# Altium integrated library SHMELib.IntLib: 385 symbols (part 1 of 3)
Pins are listed as number, name and electrical type; pins without a type are passive.

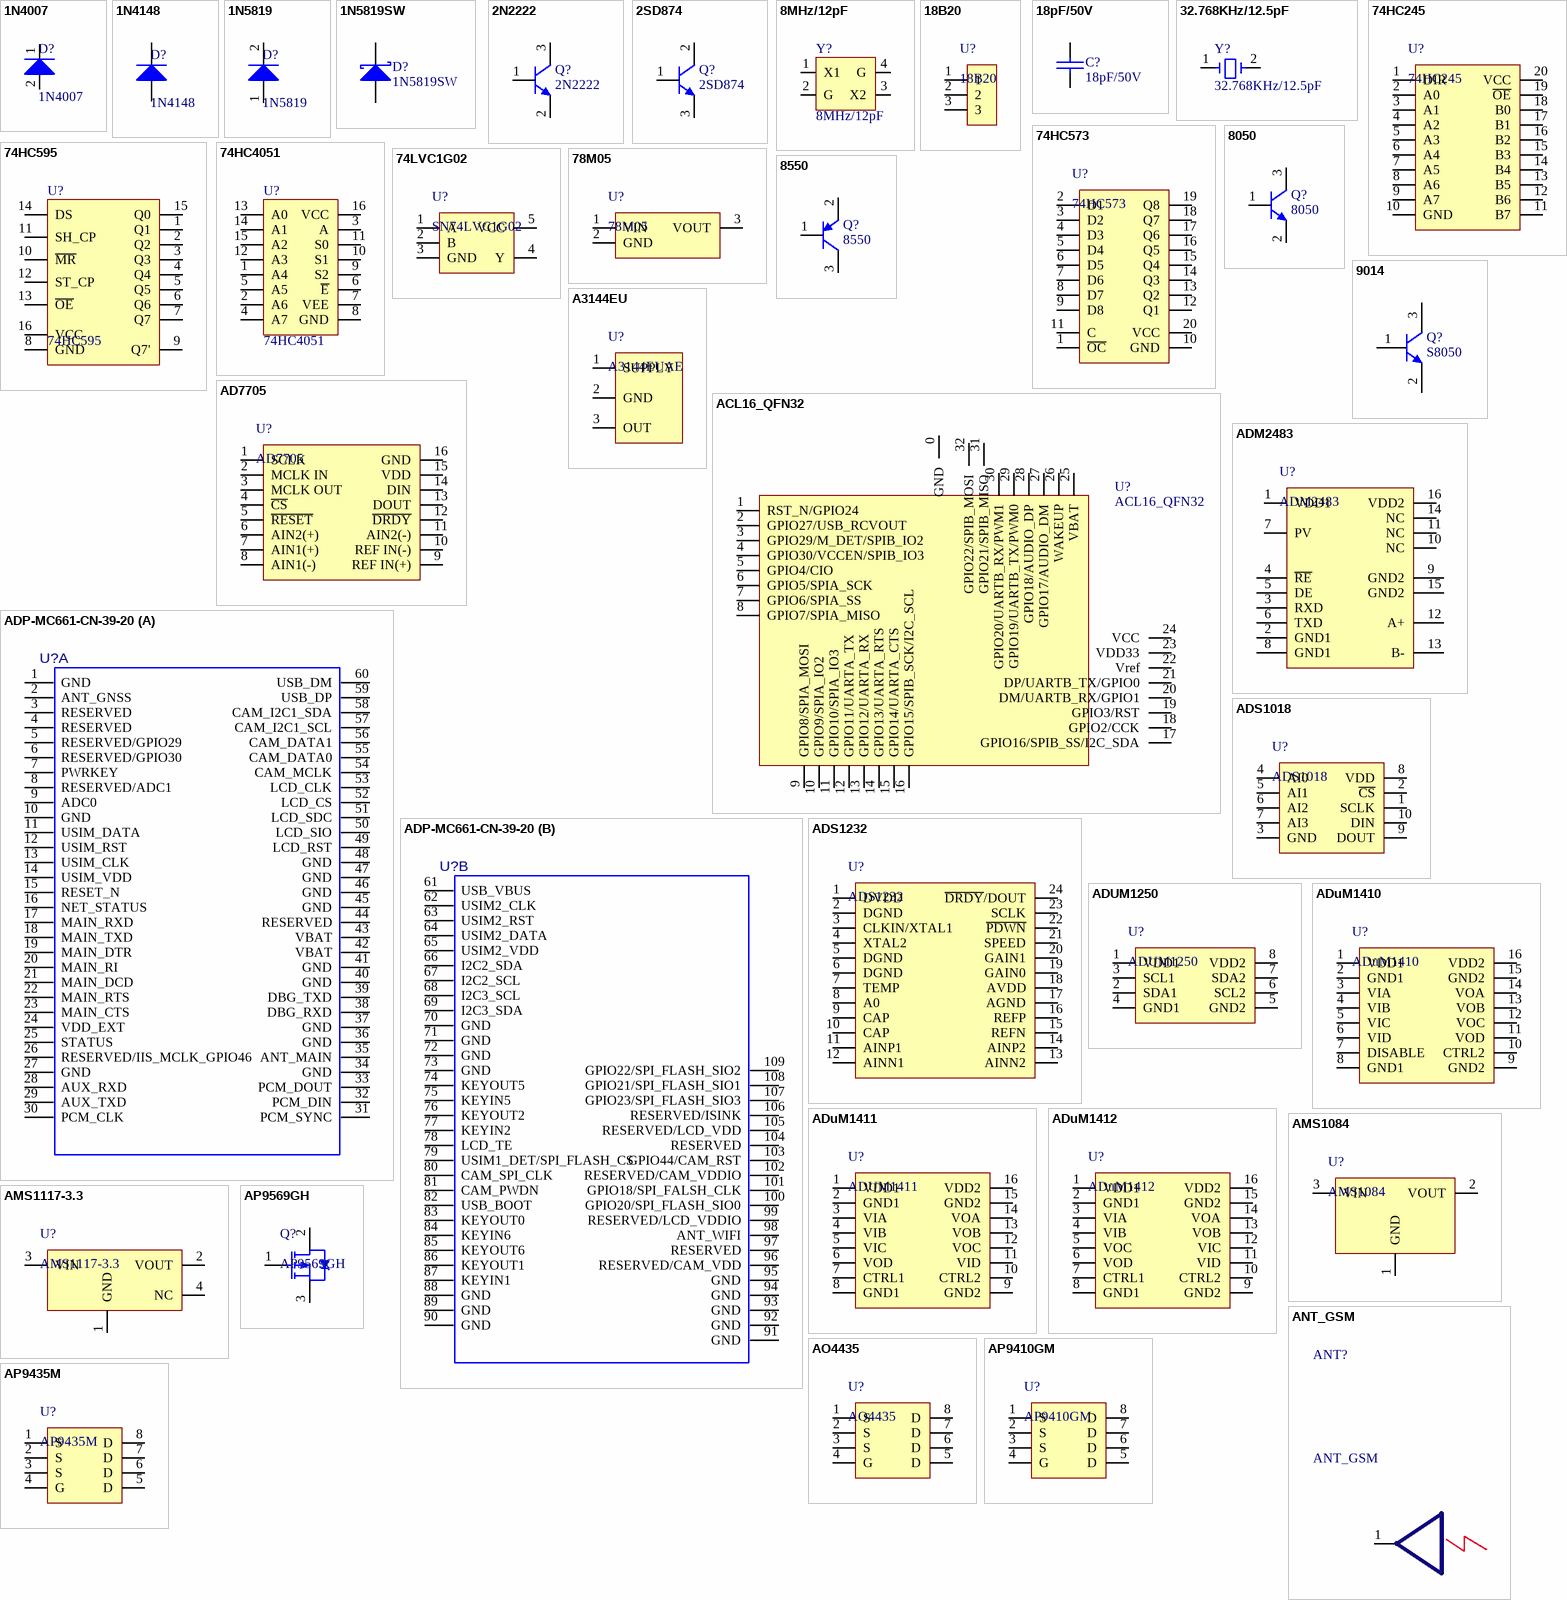
[diagram p0: symbols 1N4007 to AP9569GH]

## 1N4007
designator D?
High Conductance Fast Diode
footprint 1206D
footprint Sma
pins: 1 A, 2 K

## 1N4148
designator D?
High Conductance Fast Diode
footprint 1206D
footprint SOD-323
pins: 1 A, 2 K

## 1N5819
designator D?
High Conductance Fast Diode
footprint Sma
footprint SOD-123
pins: 1 A, 2 K

## 1N5819SW
designator D?
Schottky Diode
footprint SOD-323 (Footprint not found)
footprint SOD-323
pins: 1 A, 2 K

## 2N2222
designator Q?
NPN General Purpose Amplifier
footprint SOT23-3
pins: 1 E, 2 B, 3 C

## 2SD874
designator Q?
NPN General Purpose Amplifier
footprint SOT23-3
footprint TO-92 (TO, Flat Index; 3 In-Line, Axial Leads; Body Dia. 4.8mm; Leads 0.55 x 0.51 mm (max))
footprint SOT-89-3L
pins: 1 E, 2 B, 3 C

## 8MHz/12pF
designator Y?
Crystal; Value: 4MHz
footprint 3225 (Footprint not found)
footprint 3225晶振 (贴片4脚)
pins: 1 X1, 2 G, 3 X2, 4 G

## 18B20
designator U?
Digital Thermometer
footprint TO-92 (TO, Flat Index; 3 In-Line, Axial Leads; Body Dia. 4.8mm; Leads 0.55 x 0.51 mm (max))
pins: 1, 2, 3

## 18pF/50V
designator C?
Capacitor
footprint 0603C
footprint 0603C
pins: 1, 2

## 32.768KHz/12.5pF
designator Y?
Crystal; Value: 4MHz
footprint 3215 (Footprint not found)
footprint 3215晶振
pins: 1 OSC1, 2 OSC2

## 74HC245
designator U?
footprint SO-20
pins: 1 DIR, 2 A0, 3 A1, 4 A2, 5 A3, 6 A4, 7 A5, 8 A6, 9 A7, 10 GND, 11 B7, 12 B6, 13 B5, 14 B4, 15 B3, 16 B2, 17 B1, 18 B0, 19 ~{OE}, 20 VCC

## 74HC573
designator U?
OCTAL TRANSPARENT D-TYPE LATCHESWITH 3-STATE OUTPUTS
footprint SO-20
pins: 1 ~{OC}, 2 D1, 3 D2, 4 D3, 5 D4, 6 D5, 7 D6, 8 D7, 9 D8, 10 GND, 11 C, 12 Q1, 13 Q2, 14 Q3, 15 Q4, 16 Q5, 17 Q6, 18 Q7, 19 Q8, 20 VCC

## 74HC595
designator U?
8-bit serial-in,serial or parallel-out shift register with output latches
footprint SO-16
pins: 1 Q1, 2 Q2, 3 Q3, 4 Q4, 5 Q5, 6 Q6, 7 Q7, 8 GND, 9 Q7', 10 ~{MR}, 11 SH_CP, 12 ST_CP, 13 ~{OE}, 14 DS, 15 Q0, 16 VCC

## 74HC4051
designator U?
Single 8-Channel Multiplexer
footprint DIP-16
footprint SO-16
footprint TSSOP-16
pins: 1 A4, 2 A6, 3 A, 4 A7, 5 A5, 6 ~{E}, 7 VEE, 8 GND, 9 S2, 10 S1, 11 S0, 12 A3, 13 A0, 14 A1, 15 A2, 16 VCC

## 74LVC1G02
designator U?, comment SN74LVC1G02
footprint SOT23-5
pins: 1 A, 2 B, 3 GND, 4 Y, 5 VCC

## 78M05
designator U?
5V线性稳压模块
footprint TO-252-3
pins: 1 VIN, 2 GND, 3 VOUT

## 8050
designator Q?
NPN General Purpose Amplifier
footprint SOT23-3
pins: 1 E, 2 B, 3 C

## 8550
designator Q?
PNP General Purpose Amplifier
footprint SOT23-3
pins: 1, 2, 3

## 9014
designator Q?, comment S8050
NPN General Purpose Amplifier; Published: 8-Jun-2000; LatestRevisionDate: 15-Jan-2003; LatestRevisionNote: PCB Footprint 'BCY-W3/D4.7' replaced; DatasheetDocument: 1997; PackageReference: TO-92A; Publisher: Altium Limited; Code_JEDEC: TO-92A
footprint SOT23
signal-integrity model SS8050
footprint ZSOT23-3
pins: 1 B, 2 C, 3 E

## A3144EU
designator U?, comment A3144EUAE
Creater: SHME; CreatTime: 2019.9.3
footprint TO-92 (TO, Flat Index; 3 In-Line, Axial Leads; Body Dia. 4.8mm; Leads 0.55 x 0.51 mm (max))
footprint PH-3(2.54)
pins: 1 SUPPLY, 2 GND, 3 OUT

## ACL16_QFN32
designator U?
crypt chip
footprint ACL16_QFN32
footprint QFN32 (4*4mm)
pins: 0 GND, 1 RST_N/GPIO24, 2 GPIO27/USB_RCVOUT, 3 GPIO29/M_DET/SPIB_IO2, 4 GPIO30/VCCEN/SPIB_IO3, 5 GPIO4/CIO, 6 GPIO5/SPIA_SCK, 7 GPIO6/SPIA_SS, 8 GPIO7/SPIA_MISO, 9 GPIO8/SPIA_MOSI, 10 GPIO9/SPIA_IO2, 11 GPIO10/SPIA_IO3, 12 GPIO11/UARTA_TX, 13 GPIO12/UARTA_RX, 14 GPIO13/UARTA_RTS, 15 GPIO14/UARTA_CTS, 16 GPIO15/SPIB_SCK/I2C_SCL, 17 GPIO16/SPIB_SS/I2C_SDA, 18 GPIO2/CCK, 19 GPIO3/RST, 20 DM/UARTB_RX/GPIO1, 21 DP/UARTB_TX/GPIO0, 22 Vref, 23 VDD33, 24 VCC, 25 VBAT, 26 WAKEUP, 27 GPIO17/AUDIO_DM, 28 GPIO18/AUDIO_DP, 29 GPIO19/UARTB_TX/PWM0, 30 GPIO20/UARTB_RX/PWM1, 31 GPIO21/SPIB_MISO, 32 GPIO22/SPIB_MOSI

## AD7705
designator U?
3 V/5 V, 1 mW, 2-/3-Channel,16-Bit, Sigma-Delta ADCs
footprint TSSOP-16
pins: 1 SCLK, 2 MCLK IN, 3 MCLK OUT, 4 ~{CS}, 5 ~{RESET}, 6 AIN2(+), 7 AIN1(+), 8 AIN1(-), 9 REF IN(+), 10 REF IN(-), 11 AIN2(-), 12 ~{DRDY}, 13 DOUT, 14 DIN, 15 VDD, 16 GND

## ADM2483
designator U?
ISOLATED RS-485 Transceiver
footprint SO-16
pins: 1 VDD1, 2 GND1, 3 RXD, 4 ~{RE}, 5 DE, 6 TXD, 7 PV, 8 GND1, 9 GND2, 10 NC, 11 NC, 12 A+, 13 B-, 14 NC, 15 GND2, 16 VDD2

## ADP-MC661-CN-39-20
designator U?  (value not drawn)
Value: MC661-CN-00-00; Geometry.Height: 0.3mm; PCB DECAL: MODULE_LCC_17.7X15.8_109P_ADP; Package: MODULE-LCC-LGA-109P-BODY
footprint MODULE_LCC_17.7X15.8_109P_ADP
footprint MC661
part A pins: 1 GND, 2 ANT_GNSS, 3 RESERVED, 4 RESERVED, 5 RESERVED/GPIO29, 6 RESERVED/GPIO30, 7 PWRKEY, 8 RESERVED/ADC1, 9 ADC0, 10 GND, 11 USIM_DATA, 12 USIM_RST, 13 USIM_CLK, 14 USIM_VDD, 15 RESET_N, 16 NET_STATUS, 17 MAIN_RXD, 18 MAIN_TXD, 19 MAIN_DTR, 20 MAIN_RI, 21 MAIN_DCD, 22 MAIN_RTS, 23 MAIN_CTS, 24 VDD_EXT, 25 STATUS, 26 RESERVED/IIS_MCLK_GPIO46, 27 GND, 28 AUX_RXD, 29 AUX_TXD, 30 PCM_CLK, 31 PCM_SYNC, 32 PCM_DIN, 33 PCM_DOUT, 34 GND, 35 ANT_MAIN, 36 GND, 37 GND, 38 DBG_RXD, 39 DBG_TXD, 40 GND, 41 GND, 42 VBAT, 43 VBAT, 44 RESERVED, 45 GND, 46 GND, 47 GND, 48 GND, 49 LCD_RST, 50 LCD_SIO, 51 LCD_SDC, 52 LCD_CS, 53 LCD_CLK, 54 CAM_MCLK, 55 CAM_DATA0, 56 CAM_DATA1, 57 CAM_I2C1_SCL, 58 CAM_I2C1_SDA, 59 USB_DP, 60 USB_DM
part B pins: 61 USB_VBUS, 62 USIM2_CLK, 63 USIM2_RST, 64 USIM2_DATA, 65 USIM2_VDD, 66 I2C2_SDA, 67 I2C2_SCL, 68 I2C3_SCL, 69 I2C3_SDA, 70 GND, 71 GND, 72 GND, 73 GND, 74 KEYOUT5, 75 KEYIN5, 76 KEYOUT2, 77 KEYIN2, 78 LCD_TE, 79 USIM1_DET/SPI_FLASH_CS, 80 CAM_SPI_CLK, 81 CAM_PWDN, 82 USB_BOOT, 83 KEYOUT0, 84 KEYIN6, 85 KEYOUT6, 86 KEYOUT1, 87 KEYIN1, 88 GND, 89 GND, 90 GND, 91 GND, 92 GND, 93 GND, 94 GND, 95 GND, 96 RESERVED/CAM_VDD, 97 RESERVED, 98 ANT_WIFI, 99 RESERVED/LCD_VDDIO, 100 GPIO20/SPI_FLASH_SIO0, 101 GPIO18/SPI_FALSH_CLK, 102 RESERVED/CAM_VDDIO, 103 GPIO44/CAM_RST, 104 RESERVED, 105 RESERVED/LCD_VDD, 106 RESERVED/ISINK, 107 GPIO23/SPI_FLASH_SIO3, 108 GPIO21/SPI_FLASH_SIO1, 109 GPIO22/SPI_FLASH_SIO2

## ADS1018
designator U?
footprint VSSOP
pins: 1 SCLK, 2 ~{CS}, 3 GND, 4 AI0, 5 AI1, 6 AI2, 7 AI3, 8 VDD, 9 DOUT, 10 DIN

## ADS1232
designator U?
24-BitAnalog-to-DigitalConverterForBridgeSensors
footprint SSOP-24
pins: 1 DVDD, 2 DGND, 3 CLKIN/XTAL1, 4 XTAL2, 5 DGND, 6 DGND, 7 TEMP, 8 A0, 9 CAP, 10 CAP, 11 AINP1, 12 AINN1, 13 AINN2, 14 AINP2, 15 REFN, 16 REFP, 17 AGND, 18 AVDD, 19 GAIN0, 20 GAIN1, 21 SPEED, 22 ~{PDWN}, 23 SCLK, 24 ~{DRDY}/DOUT

## ADUM1250
designator U?
footprint SO-8
pins: 1 VDD1, 2 SDA1, 3 SCL1, 4 GND1, 5 GND2, 6 SCL2, 7 SDA2, 8 VDD2

## ADuM1410
designator U?
四通道数字隔离器
footprint SOP-16
pins: 1 VDD1, 2 GND1, 3 VIA, 4 VIB, 5 VIC, 6 VID, 7 DISABLE, 8 GND1, 9 GND2, 10 CTRL2, 11 VOD, 12 VOC, 13 VOB, 14 VOA, 15 GND2, 16 VDD2

## ADuM1411
designator U?, comment ADUM1411
四通道数字隔离器
footprint SOP-16
pins: 1 VDD1, 2 GND1, 3 VIA, 4 VIB, 5 VIC, 6 VOD, 7 CTRL1, 8 GND1, 9 GND2, 10 CTRL2, 11 VID, 12 VOC, 13 VOB, 14 VOA, 15 GND2, 16 VDD2

## ADuM1412
designator U?
四通道数字隔离器
footprint SOP-16
pins: 1 VDD1, 2 GND1, 3 VIA, 4 VIB, 5 VOC, 6 VOD, 7 CTRL1, 8 GND1, 9 GND2, 10 CTRL2, 11 VID, 12 VIC, 13 VOB, 14 VOA, 15 GND2, 16 VDD2

## AMS1084
designator U?
5A LOW DROPOUT VOLTAGE REGULATOR
footprint TO-252-3
pins: 1 GND, 2 VOUT, 3 VIN

## AMS1117-3.3
designator U?
footprint SOT-223
pins: 1 GND, 2 VOUT, 3 VIN, 4 NC

## ANT_GSM
designator ANT?
footprint GSM_ANT
footprint BLT-REF
pins: 1
2 alternate drawings of the same symbol

## AO4435
designator U?
footprint SO-8
pins: 1 S, 2 S, 3 S, 4 G, 5 D, 6 D, 7 D, 8 D

## AP9410GM
designator U?
N-Channel 30-V(D-S) MOSFET
footprint SO-8
pins: 1 S, 2 S, 3 S, 4 G, 5 D, 6 D, 7 D, 8 D

## AP9435M
designator U?
footprint SO-8
pins: 1 S, 2 S, 3 S, 4 G, 5 D, 6 D, 7 D, 8 D

## AP9569GH
designator Q?
footprint TO-252-3
pins: 1 G, 2 D, 3 S

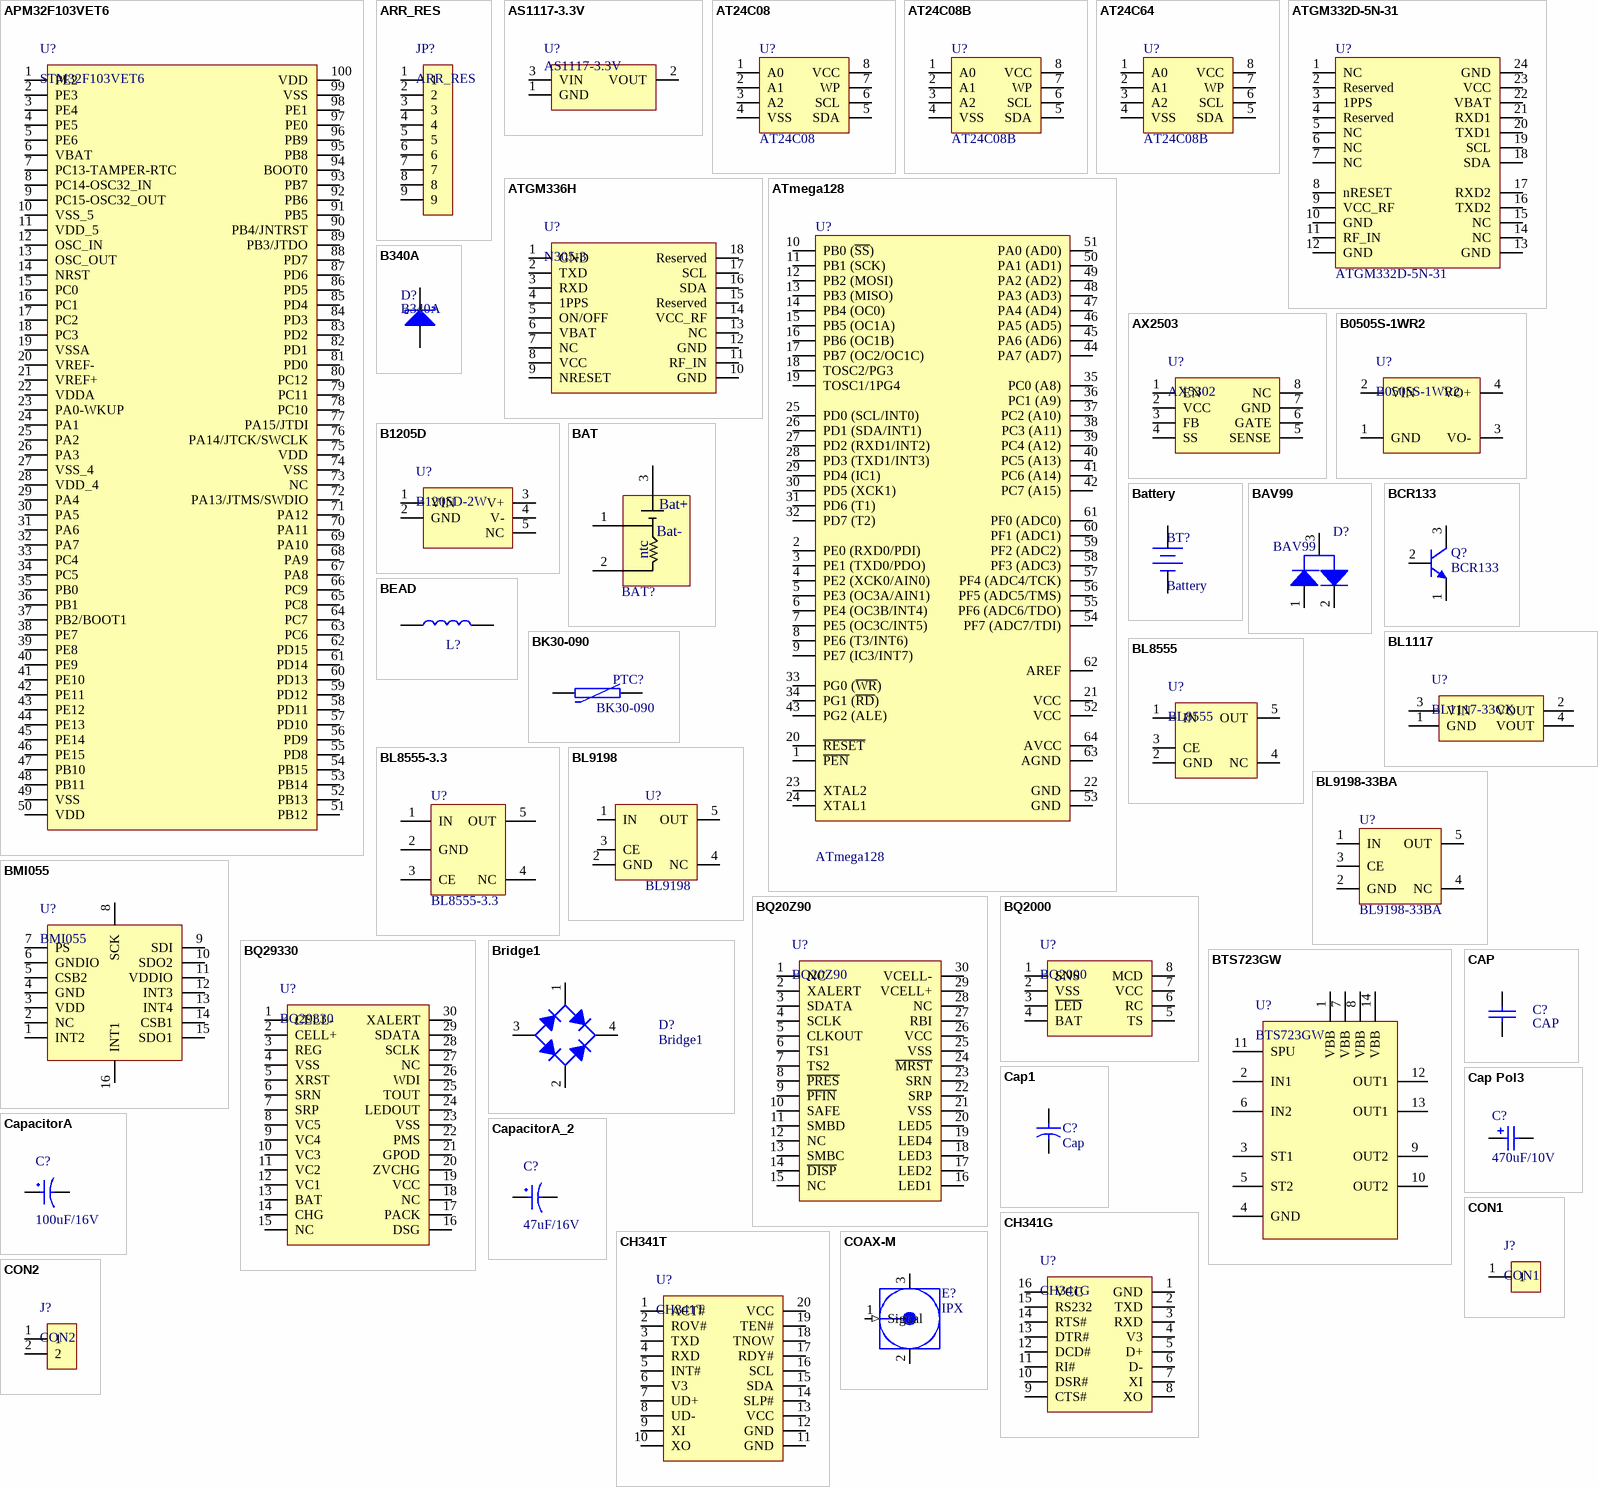
[diagram p1: symbols APM32F103VET6 to CON2]

## APM32F103VET6
designator U?, comment STM32F103VET6
极海单片机; Published: 30-May-2008; DatasheetVersion: rev6, Mar-2008; PackageVersion: Mar-2008; PackageReference: LQFP100; Publisher: Altium Limited; PackageDescription: 100-Pin Low-Profile Quad Flat Pack, 14 x 14 mm Body, 0.5 mm Pitch (LQFP100); ComponentLink1Description: Manufacturer Link; ComponentLink1URL: www.st.com/stm32; ComponentLink2Description: Datasheet; ComponentLink2URL: http://www.st.com/stonline/products/literature/ds/13587.pdf
footprint TQFP-100
pins: 1 PE2, 2 PE3, 3 PE4, 4 PE5, 5 PE6, 6 VBAT, 7 PC13-TAMPER-RTC, 8 PC14-OSC32_IN, 9 PC15-OSC32_OUT, 10 VSS_5, 11 VDD_5, 12 OSC_IN, 13 OSC_OUT, 14 NRST, 15 PC0, 16 PC1, 17 PC2, 18 PC3, 19 VSSA, 20 VREF-, 21 VREF+, 22 VDDA, 23 PA0-WKUP, 24 PA1, 25 PA2, 26 PA3, 27 VSS_4, 28 VDD_4, 29 PA4, 30 PA5, 31 PA6, 32 PA7, 33 PC4, 34 PC5, 35 PB0, 36 PB1, 37 PB2/BOOT1, 38 PE7, 39 PE8, 40 PE9, 41 PE10, 42 PE11, 43 PE12, 44 PE13, 45 PE14, 46 PE15, 47 PB10, 48 PB11, 49 VSS, 50 VDD, 51 PB12, 52 PB13, 53 PB14, 54 PB15, 55 PD8, 56 PD9, 57 PD10, 58 PD11, 59 PD12, 60 PD13, 61 PD14, 62 PD15, 63 PC6, 64 PC7, 65 PC8, 66 PC9, 67 PA8, 68 PA9, 69 PA10, 70 PA11, 71 PA12, 72 PA13/JTMS/SWDIO, 73 NC, 74 VSS, 75 VDD, 76 PA14/JTCK/SWCLK, 77 PA15/JTDI, 78 PC10, 79 PC11, 80 PC12, 81 PD0, 82 PD1, 83 PD2, 84 PD3, 85 PD4, 86 PD5, 87 PD6, 88 PD7, 89 PB3/JTDO, 90 PB4/JNTRST, 91 PB5, 92 PB6, 93 PB7, 94 BOOT0, 95 PB8, 96 PB9, 97 PE0, 98 PE1, 99 VSS, 100 VDD

## ARR_RES
designator JP?
Arry_Res-8
footprint RAD
pins: 1, 2, 3, 4, 5, 6, 7, 8, 9

## AS1117-3.3V
designator U?
LDO
footprint SOT-223
pins: 1 GND, 2 VOUT, 3 VIN

## AT24C08
designator U?
EEPROM
footprint ZSOP8
pins: 1 A0, 2 A1, 3 A2, 4 VSS (power), 5 SDA, 6 SCL, 7 WP, 8 VCC (power)

## AT24C08B
designator U?
8K I2C CMOS Serial EEPROM
footprint ZSOP8
pins: 1 A0, 2 A1, 3 A2, 4 VSS (power), 5 SDA, 6 SCL, 7 WP, 8 VCC (power)

## AT24C64
designator U?, comment AT24C08B
8K I2C CMOS Serial EEPROM
footprint ZSOP8
pins: 1 A0, 2 A1, 3 A2, 4 VSS (power), 5 SDA, 6 SCL, 7 WP, 8 VCC (power)

## ATGM332D-5N-31
designator U?
中科微GPS
footprint ATGM332D
footprint GPS模组
pins: 1 NC, 2 Reserved, 3 1PPS, 4 Reserved, 5 NC, 6 NC, 7 NC, 8 nRESET, 9 VCC_RF, 10 GND, 11 RF_IN, 12 GND, 13 GND, 14 NC, 15 NC, 16 TXD2, 17 RXD2, 18 SDA, 19 SCL, 20 TXD1, 21 RXD1, 22 VBAT, 23 VCC, 24 GND

## ATGM336H
designator U?, comment N305-3
footprint ATGM336H
pins: 1 GND, 2 TXD, 3 RXD, 4 1PPS, 5 ON/OFF, 6 VBAT, 7 NC, 8 VCC, 9 NRESET, 10 GND, 11 RF_IN, 12 GND, 13 NC, 14 VCC_RF, 15 Reserved, 16 SDA, 17 SCL, 18 Reserved

## ATmega128
designator U?
8-Bit AVR Microcontroller with 128K Bytes of In-System Programmable Flash Memory
footprint TQFP-64 (Thin QFP, 64-Leads, Body 14x14mm, Pitch 0.8mm, IPC Low Density)
pins: 1 ~{PEN}, 2 PE0 (RXD0/PDI), 3 PE1 (TXD0/PDO), 4 PE2 (XCK0/AIN0), 5 PE3 (OC3A/AIN1), 6 PE4 (OC3B/INT4), 7 PE5 (OC3C/INT5), 8 PE6 (T3/INT6), 9 PE7 (IC3/INT7), 10 PB0 (~{SS}), 11 PB1 (SCK), 12 PB2 (MOSI), 13 PB3 (MISO), 14 PB4 (OC0), 15 PB5 (OC1A), 16 PB6 (OC1B), 17 PB7 (OC2/OC1C), 18 TOSC2/PG3, 19 TOSC1/1PG4, 20 ~{RESET}, 21 VCC (power), 22 GND (power), 23 XTAL2, 24 XTAL1, 25 PD0 (SCL/INT0), 26 PD1 (SDA/INT1), 27 PD2 (RXD1/INT2), 28 PD3 (TXD1/INT3), 29 PD4 (IC1), 30 PD5 (XCK1), 31 PD6 (T1), 32 PD7 (T2), 33 PG0 (~{WR}), 34 PG1 (~{RD}), 35 PC0 (A8), 36 PC1 (A9), 37 PC2 (A10), 38 PC3 (A11), 39 PC4 (A12), 40 PC5 (A13), 41 PC6 (A14), 42 PC7 (A15), 43 PG2 (ALE), 44 PA7 (AD7), 45 PA6 (AD6), 46 PA5 (AD5), 47 PA4 (AD4), 48 PA3 (AD3), 49 PA2 (AD2), 50 PA1 (AD1), 51 PA0 (AD0), 52 VCC (power), 53 GND (power), 54 PF7 (ADC7/TDI), 55 PF6 (ADC6/TDO), 56 PF5 (ADC5/TMS), 57 PF4 (ADC4/TCK), 58 PF3 (ADC3), 59 PF2 (ADC2), 60 PF1 (ADC1), 61 PF0 (ADC0), 62 AREF, 63 AGND (power), 64 AVCC (power)

## AX2503
designator U?, comment AX5302
PWM Step-up?Controller
footprint SO-8
pins: 1 EN, 2 VCC, 3 FB, 4 SS, 5 SENSE, 6 GATE, 7 GND, 8 NC

## B340A
designator D?
Schottky Diode
footprint SMA
pins: 1 A, 2 K

## B0505S-1WR2
designator U?
footprint B0505S-P
footprint B0505S-1WR2
pins: 1 GND, 2 VIN, 3 VO-, 4 VO+

## B1205D
designator U?, comment B1205D-2W
DC-DC Mode
footprint B1205D-P
pins: 1 VIN, 2 GND, 3 V+, 4 V-, 5 NC

## BAT
designator BAT?  (value not drawn)
footprint 插座1.5间距3P
footprint 插座1.5间距3P
pins: 1 Bat-, 2 Temp, 3 Bat+
text: ntc

## Battery
designator BT?
Multicell Battery
footprint CR1220
pins: 1 +, 2 -

## BAV99
designator D?
FAIRCHILD Small Signal Diodes
footprint SOT23-3
pins: 1, 2, 3

## BCR133
designator Q?
NPN General Purpose Amplifier
footprint SOT23-3
pins: 1, 2, 3

## BEAD
designator L?  (value not drawn)
INDUCTOR; Value: 600R
footprint 0805
footprint 0603
pins: 1, 2

## BK30-090
designator PTC?
PTC
footprint BK250-040
pins: 1, 2

## BL1117
designator U?, comment BL1117-33CX
footprint SOT-223
pins: 1 GND, 2 VOUT, 3 VIN, 4 VOUT

## BL8555
designator U?
footprint SOT23-5
pins: 1 IN, 2 GND, 3 CE, 4 NC, 5 OUT

## BL8555-3.3
designator U?
footprint SOT23-5
footprint ZSOT23-5
pins: 1 IN, 2 GND, 3 CE, 4 NC, 5 OUT

## BL9198
designator U?
footprint SOT23-5
pins: 1 IN, 2 GND, 3 CE, 4 NC, 5 OUT

## BL9198-33BA
designator U?
footprint SOT23-5
footprint ZSOT23-5
pins: 1 IN, 2 GND, 3 CE, 4 NC, 5 OUT

## BMI055
designator U?
footprint BMI055
pins: 1 INT2, 2 NC, 3 VDD, 4 GND, 5 CSB2, 6 GNDIO, 7 PS, 8 SCK, 9 SDI, 10 SDO2, 11 VDDIO, 12 INT3, 13 INT4, 14 CSB1, 15 SDO1, 16 INT1

## BQ20Z90
designator U?
footprint SOP-30
pins: 1 NC, 2 XALERT, 3 SDATA, 4 SCLK, 5 CLKOUT, 6 TS1, 7 TS2, 8 ~{PRES}, 9 ~{PFIN}, 10 SAFE, 11 SMBD, 12 NC, 13 SMBC, 14 ~{DISP}, 15 NC, 16 LED1, 17 LED2, 18 LED3, 19 LED4, 20 LED5, 21 VSS, 22 SRP, 23 SRN, 24 ~{MRST}, 25 VSS, 26 VCC, 27 RBI, 28 NC, 29 VCELL+, 30 VCELL-

## BQ2000
designator U?
footprint SO-8
pins: 1 SNS, 2 VSS, 3 ~{LED}, 4 BAT, 5 TS, 6 RC, 7 VCC, 8 MCD

## BQ29330
designator U?
footprint SOP-30
pins: 1 CELL-, 2 CELL+, 3 REG, 4 VSS, 5 XRST, 6 SRN, 7 SRP, 8 VC5, 9 VC4, 10 VC3, 11 VC2, 12 VC1, 13 BAT, 14 CHG, 15 NC, 16 DSG, 17 PACK, 18 NC, 19 VCC, 20 ZVCHG, 21 GPOD, 22 PMS, 23 VSS, 24 LEDOUT, 25 TOUT, 26 WDI, 27 NC, 28 SCLK, 29 SDATA, 30 XALERT

## Bridge1
designator D?
Full Wave Diode Bridge
footprint MB6S
pins: 1, 2, 3, 4

## BTS723GW
designator U?
footprint SO-14
pins: 1 VBB, 2 IN1, 3 ST1, 4 GND, 5 ST2, 6 IN2, 7 VBB, 8 VBB, 9 OUT2, 10 OUT2, 11 SPU, 12 OUT1, 13 OUT1, 14 VBB

## CAP
designator C?
Capacitor
footprint CD 15P
footprint 1206
footprint C0805
footprint C0603
pins: 1, 2

## Cap1
designator C?, comment Cap
Capacitor
footprint Cap_A
footprint CD6.3 X 11
footprint CD8 X 11.5
footprint CAP_SMT 8 X 10.5
footprint cap_d
footprint CAP_B
footprint Cap 11 X 11
footprint CD 5 X 11
footprint CD 10 X 12.5
footprint CAP6.3_SMT
footprint CD16 X 25
footprint Cap8X11.5_3.5
footprint Cap7.5
footprint CAP_C
footprint CD_38X18
pins: 1, 2

## Cap Pol3
designator C?, comment 470uF/10V
Polarized Capacitor (Surface Mount); Value: 100pF; Published: 8-Jun-2000; LatestRevisionDate: 29-May-2009; LatestRevisionNote: IPC-7351 Footprint Added.; PackageReference: C0805; Publisher: Altium Limited; PackageDescription: Chip Capacitor
footprint C0805 (Chip Capacitor, Body 2.0x1.3mm, IPC High Density)
footprint 1812 (Chip Capacitor, Body 4.5x3.2mm, IPC High Density)
footprint 1825 (Chip Capacitor, Body 4.5x6.4mm, IPC High Density)
footprint C2225 (Chip Capacitor, Body 5.7x6.4mm, IPC High Density)
footprint 2220 (Chip Capacitor, Body 5.7x5.0mm, IPC High Density)
simulation model CAP (Capacitor)
signal-integrity model Cap Pol
footprint 7343钽电容
footprint 电解贴片电容φ6.3
footprint 电解贴片电容φ6.3
pins: 1, 2
1 alternate drawing of the same symbol

## CapacitorA
designator C?, comment 100uF/16V
footprint 7343C
footprint 3528C
footprint 3528钽电容
footprint 电解贴片电容φ6.3
pins: 1, 2

## CapacitorA_2
designator C?, comment 47uF/16V
footprint 7343C
footprint 3528C
footprint 3528钽电容
footprint 电解贴片电容φ5
footprint 电解贴片电容φ5
pins: 1, 2

## CH341G
designator U?
footprint SO-16
pins: 1 GND, 2 TXD, 3 RXD, 4 V3, 5 D+, 6 D-, 7 XI, 8 XO, 9 CTS#, 10 DSR#, 11 RI#, 12 DCD#, 13 DTR#, 14 RTS#, 15 RS232, 16 VCC

## CH341T
designator U?
CH341T-UART
footprint SSOP-20
pins: 1 ACT#, 2 ROV#, 3 TXD, 4 RXD, 5 INT#, 6 V3, 7 UD+, 8 UD-, 9 XI, 10 XO, 11 GND, 12 GND, 13 VCC, 14 SLP#, 15 SDA, 16 SCL, 17 RDY#, 18 TNOW, 19 TEN#, 20 VCC

## COAX-M
designator E?, comment IPX
RF Coaxial PCB Connector, MMCX; Thru-Hole, Vertical Mount Plug,  50 Ohm Impedance; PackageDocument: Rev. A, 16-Jun-1997; PCB_Layout: Complies with manufacturer's recommendation.; DrillSize: Corresponds to nominal value.; Published: 15-Jul-2004; LatestRevisionDate: 15-Jul-2004; LatestRevisionNote: Component Replaced.; DatasheetDocument: 30-May-2003; PackageReference: 908-21103; Publisher: Altium Limited; ComponentLink1Description: Manufacturer Link; ComponentLink1URL: http://www.amphenolrf.com/
footprint IPEX 3*3*1.25
footprint IPEX座
footprint SMA天线座
pins: 1 Signal (in) "Signal Pin", 2 GND (power), 3 GND (power)

## CON1
designator J?
Header-1
footprint PH-1
footprint CON1
pins: 1

## CON2
designator J?
Header-2
footprint PH-2(2.54)
footprint HX25003-2A
footprint EK500V-2P
footprint XH-2.54-L-2P
pins: 1, 2

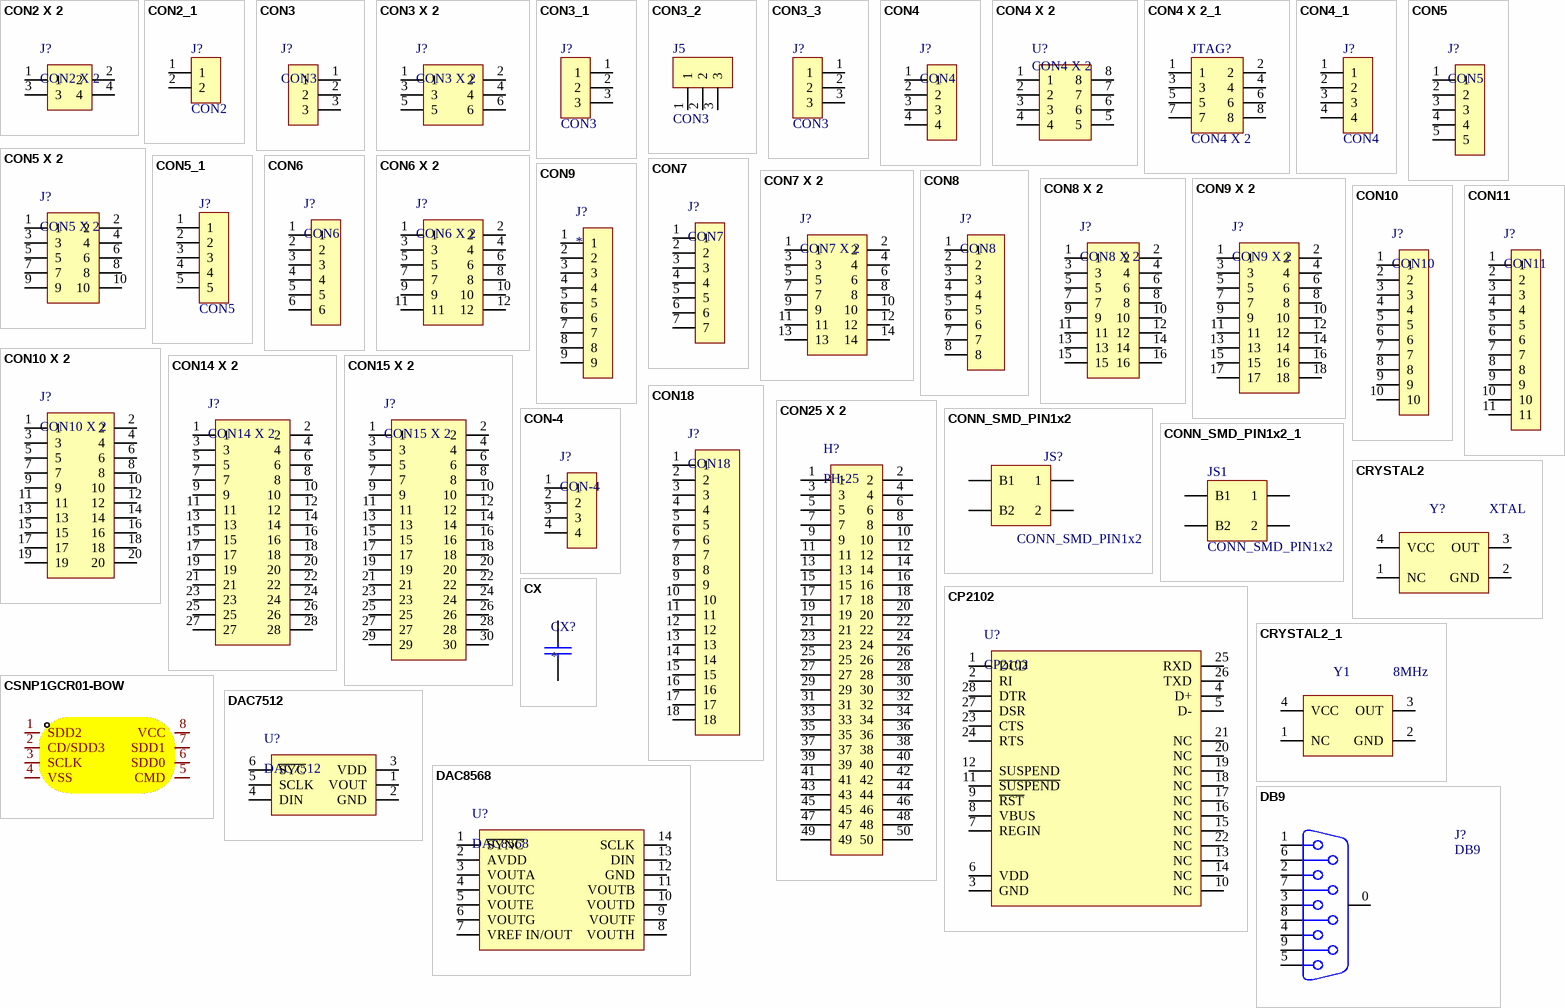
[diagram p2: symbols CON2 X 2 to DB9]

## CON2 X 2
designator J?
footprint PH-2 X 2(2.54)
pins: 1, 2, 3, 4

## CON2_1
designator J?, comment CON2
Header-2
footprint PH-2(2.54)
footprint HX25003-2A
footprint EK500V-2P
pins: 1, 2

## CON3
designator J?
footprint PH-3(2.54)
footprint HX25003-3A
footprint CH3.96-3P
footprint BATTERY
footprint XH-2.54-L-3P
pins: 1, 2, 3

## CON3 X 2
designator J?
footprint PH-3 X 2(2.54)
pins: 1, 2, 3, 4, 5, 6

## CON3_1
designator J?, comment CON3
footprint PH-3(2.54)
footprint HX25003-3A
footprint CH3.96-3P
footprint BATTERY
pins: 1, 2, 3

## CON3_2
designator J5, comment CON3
footprint PH-3(2.54)
footprint HX25003-3A
footprint CH3.96-3P
footprint BATTERY
pins: 1, 2, 3

## CON3_3
designator J?, comment CON3
footprint PH-3(2.54)
footprint HX25003-3A
footprint CH3.96-3P
footprint BATTERY
footprint ZCON3
pins: 1, 2, 3

## CON4
designator J?
footprint PH-4(2.54)
footprint HX25003-4A
footprint EK500V-4P
footprint CH3.96-4P
footprint XH-2.54-L-4P
footprint FPC-4Pin
pins: 1, 2, 3, 4

## CON4 X 2
designator U?
footprint PH-4 X 2(2.54)
pins: 1, 2, 3, 4, 5, 6, 7, 8

## CON4 X 2_1
designator JTAG?, comment CON4 X 2
footprint PH-4 X 2(2.54)
pins: 1, 2, 3, 4, 5, 6, 7, 8

## CON4_1
designator J?, comment CON4
footprint PH-4(2.54)
footprint HX25003-4A
footprint EK500V-4P
footprint CH3.96-4P
footprint PAD-4
footprint ZCON4
pins: 1, 2, 3, 4

## CON5
designator J?
Header-5
footprint PH-5(2.54)
footprint HX25003-5A
pins: 1, 2, 3, 4, 5

## CON5 X 2
designator J?
Header 5 X 2
footprint JTGA-10
footprint PH-5 X 2(2.54)
pins: 1, 2, 3, 4, 5, 6, 7, 8, 9, 10

## CON5_1
designator J?, comment CON5
Header-5
footprint PH-5(2.54)
footprint HX25003-5A
pins: 1, 2, 3, 4, 5

## CON6
designator J?
footprint PH-6(2.54)
footprint HX25003-6A
footprint CON6
footprint CON6 -A
pins: 1, 2, 3, 4, 5, 6

## CON6 X 2
designator J?
footprint PH-6 X 2(2.54)
pins: 1, 2, 3, 4, 5, 6, 7, 8, 9, 10, 11, 12

## CON7
designator J?
footprint PH-7(2.54)
footprint HX25003-7A
pins: 1, 2, 3, 4, 5, 6, 7

## CON7 X 2
designator J?
footprint PH-7 X 2(2.54)
pins: 1, 2, 3, 4, 5, 6, 7, 8, 9, 10, 11, 12, 13, 14

## CON8
designator J?
footprint PH-8(2.54)
footprint HX25003-8A
footprint PH-8(2.0)
footprint PH-4 X 2(2.54)
footprint Molex-6Pin
pins: 1, 2, 3, 4, 5, 6, 7, 8

## CON8 X 2
designator J?
footprint PH-8 X 2(2.54)
pins: 1, 2, 3, 4, 5, 6, 7, 8, 9, 10, 11, 12, 13, 14, 15, 16

## CON9
designator J?
footprint PH-9 (2.54)
footprint HX25003-9A
footprint EK500V-9P
pins: 1, 2, 3, 4, 5, 6, 7, 8, 9

## CON9 X 2
designator J?
footprint PH-9 X 2(2.54)
pins: 1, 2, 3, 4, 5, 6, 7, 8, 9, 10, 11, 12, 13, 14, 15, 16, 17, 18

## CON10
designator J?
footprint CON-5.81mm
footprint HX25003-10A
pins: 1, 2, 3, 4, 5, 6, 7, 8, 9, 10

## CON10 X 2
designator J?
footprint PH-10X 2(2.54)
pins: 1, 2, 3, 4, 5, 6, 7, 8, 9, 10, 11, 12, 13, 14, 15, 16, 17, 18, 19, 20

## CON11
designator J?
footprint EK500V-11P
pins: 1, 2, 3, 4, 5, 6, 7, 8, 9, 10, 11

## CON14 X 2
designator J?
footprint PH-14 X 2(2.54)
pins: 1, 2, 3, 4, 5, 6, 7, 8, 9, 10, 11, 12, 13, 14, 15, 16, 17, 18, 19, 20, 21, 22, 23, 24, 25, 26, 27, 28

## CON15 X 2
designator J?
footprint PH-15 X 2(2.54)
pins: 1, 2, 3, 4, 5, 6, 7, 8, 9, 10, 11, 12, 13, 14, 15, 16, 17, 18, 19, 20, 21, 22, 23, 24, 25, 26, 27, 28, 29, 30

## CON18
designator J?
footprint EK500V-18P
pins: 1, 2, 3, 4, 5, 6, 7, 8, 9, 10, 11, 12, 13, 14, 15, 16, 17, 18

## CON25 X 2
designator H?, comment PH-25
footprint PH-25 X 2(2.54)
pins: 1, 2, 3, 4, 5, 6, 7, 8, 9, 10, 11, 12, 13, 14, 15, 16, 17, 18, 19, 20, 21, 22, 23, 24, 25, 26, 27, 28, 29, 30, 31, 32, 33, 34, 35, 36, 37, 38, 39, 40, 41, 42, 43, 44, 45, 46, 47, 48, 49, 50

## CON-4
designator J?
footprint PH-4(2.54)
pins: 1, 2, 3, 4

## CONN_SMD_PIN1x2
designator JS?
footprint MOLEX_53261-0271
pins: 1, 2, B1, B2
2 alternate drawings of the same symbol

## CONN_SMD_PIN1x2_1
designator JS1, comment CONN_SMD_PIN1x2
footprint MOLEX_53261-0271
pins: 1, 2, B1, B2
2 alternate drawings of the same symbol

## CP2102
designator U?
Single chip usb to uart bridge
footprint QFN-28
pins: 1 DCD, 2 RI, 3 GND, 4 D+, 5 D-, 6 VDD, 7 REGIN, 8 VBUS, 9 ~{RST}, 10 NC, 11 ~{SUSPEND}, 12 SUSPEND, 13 NC, 14 NC, 15 NC, 16 NC, 17 NC, 18 NC, 19 NC, 20 NC, 21 NC, 22 NC, 23 CTS, 24 RTS, 25 RXD, 26 TXD, 27 DSR, 28 DTR

## CRYSTAL2
designator Y?, comment XTAL
footprint XTAL2
pins: 1 NC, 2 GND, 3 OUT, 4 VCC
2 alternate drawings of the same symbol

## CRYSTAL2_1
designator Y1, comment 8MHz
有源晶振
footprint XTAL2
pins: 1 NC, 2 GND, 3 OUT, 4 VCC
2 alternate drawings of the same symbol

## CSNP1GCR01-BOW
designator U?  (value not drawn)
Manufacturer: CS(创世); Add into BOM: yes; Memory Size: 1Gbit; Clock Frequency (fc): 50MHz; Supply Voltage: 2.7V~3.6V; Supply Current (Read): 25mA; Standby supply current: 200uA; Name: CSNP1GCR01-BOW; Symbol: CSNP1GCR01-BOW; Device: CSNP1GCR01-BOW; LCSC Part Name: 1Gb SD NAND 一代; Supplier Part: C2691593; Manufacturer Part: CSNP1GCR01-BOW; Supplier Footprint: LGA-8(6x8); JLCPCB Part Class: Extended Part; Datasheet: https://atta.szlcsc.com/upload/public/pdf/source/20210222/C2691593_195F15B6690BC3EBF1684FE727FBFF20.pdf; Supplier: LCSC; Convert to PCB: yes; Supply Current (Program): 25mA; Operating Temperature: -30℃~+85℃
footprint LGA-8_L6.0-W8.0-P1.27-TL
3D model LGA-8_L6.0-W8.0-H0.8-P1.27
pins: 1 SDD2, 2 CD/SDD3, 3 SCLK, 4 VSS, 5 CMD, 6 SDD0, 7 SDD1, 8 VCC

## CX
designator CX?
footprint CX
pins: 1, 2

## DAC7512
designator U?
footprint SOT23-6
pins: 1 VOUT, 2 GND, 3 VDD, 4 DIN, 5 SCLK, 6 ~{SYC}

## DAC8568
designator U?
footprint TSSOP-14
pins: 1 ~{SYNC}, 2 AVDD, 3 VOUTA, 4 VOUTC, 5 VOUTE, 6 VOUTG, 7 VREF IN/OUT, 8 VOUTH, 9 VOUTF, 10 VOUTD, 11 VOUTB, 12 GND, 13 DIN, 14 SCLK

## DB9
designator J?
Receptacle Assembly, 9 Position, Right Angle
footprint DB9/M
pins: 0, 1, 2, 3, 4, 5, 6, 7, 8, 9

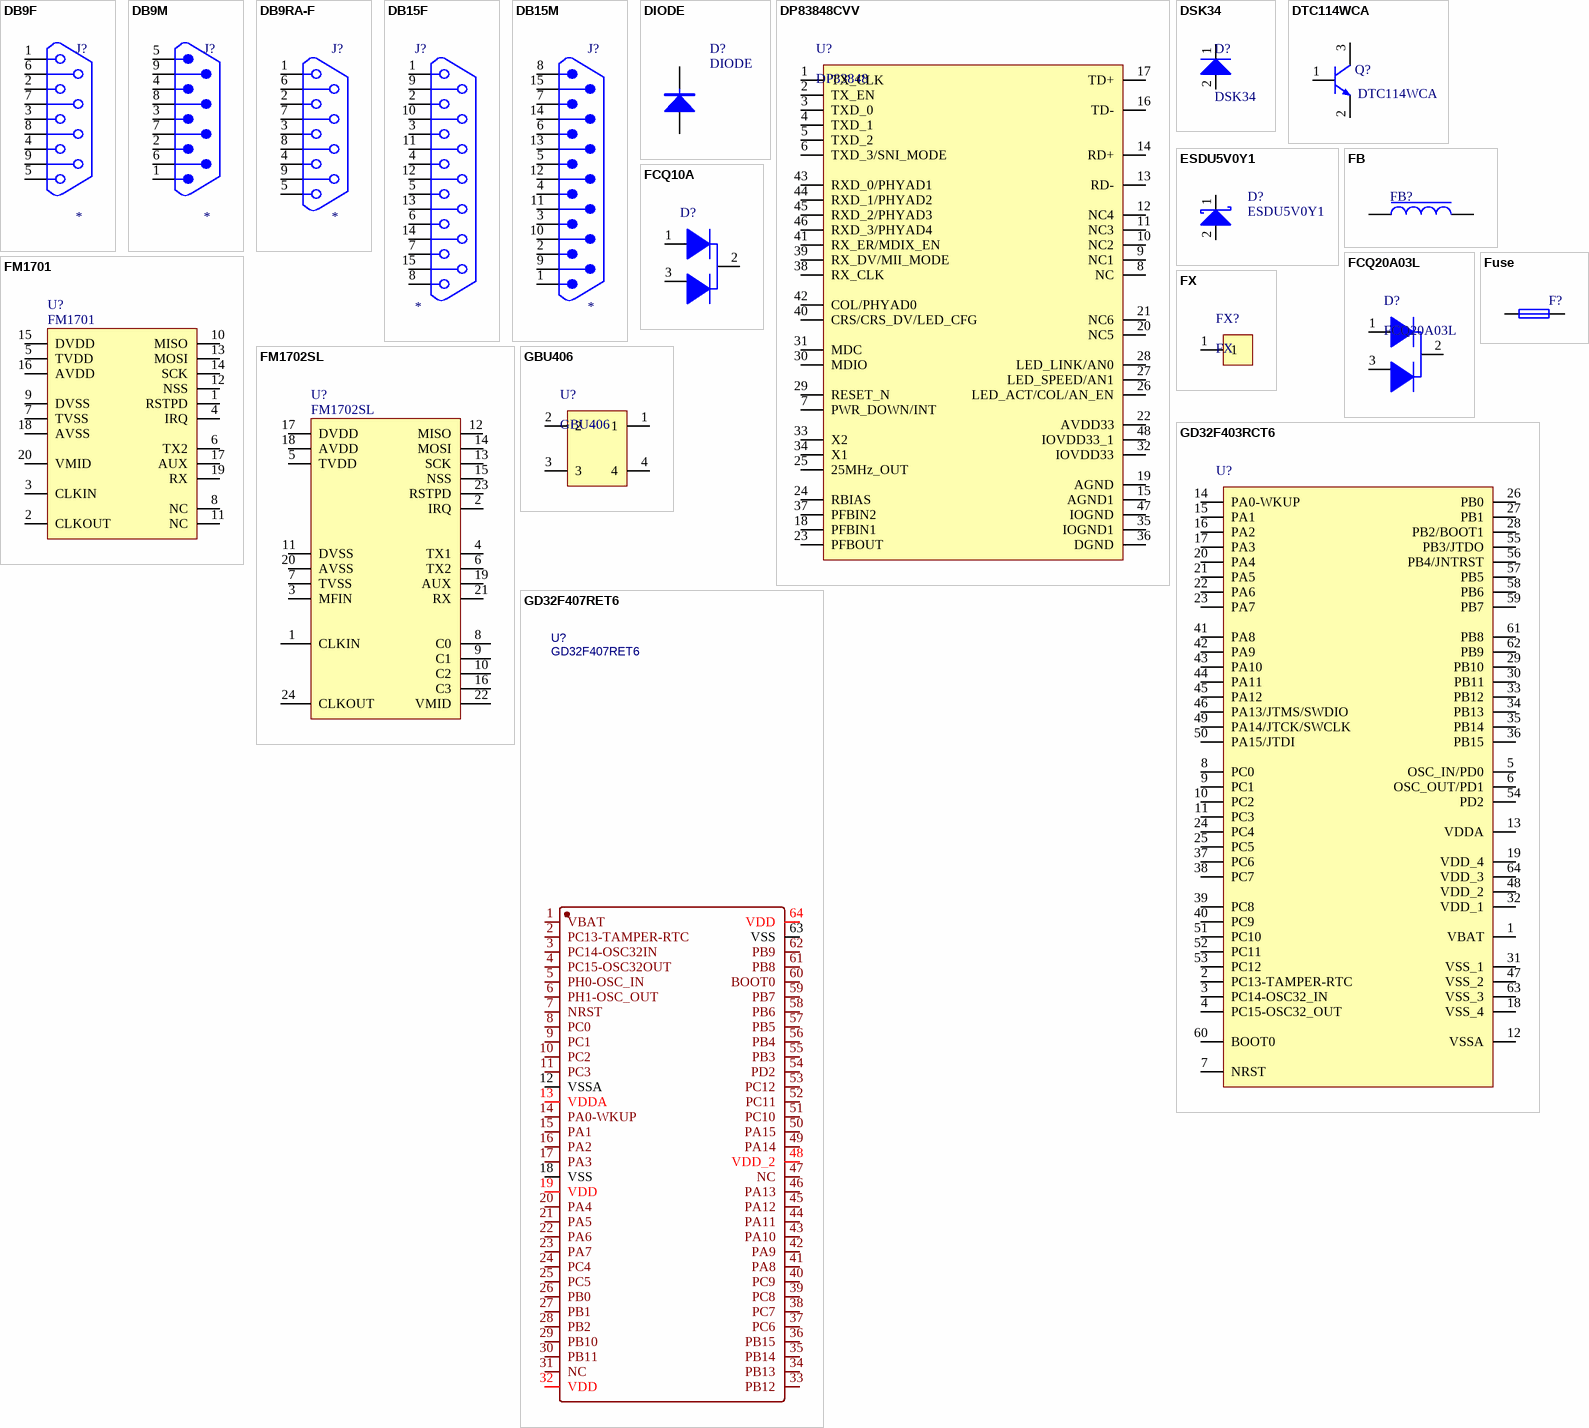
[diagram p3: symbols DB9F to GD32F407RET6]

## DB9F
designator J?
jointbar
footprint DB9F
pins: 1, 2, 3, 4, 5, 6, 7, 8, 9

## DB9M
designator J?
jointbar
footprint DB9M
pins: 1 5, 2 4, 3, 4 2, 5 1, 6 9, 7 8, 8 7, 9 6

## DB9RA-F
designator J?
jointbar
footprint DB9-SMD
pins: 1, 2, 3, 4, 5, 6, 7, 8, 9

## DB15F
designator J?
jointbar
footprint DB15F
pins: 1, 2, 3, 4, 5, 6, 7, 8, 9, 10, 11, 12, 13, 14, 15

## DB15M
designator J?
jointbar
footprint DB15M
pins: 1, 2, 3, 4, 5, 6, 7, 8, 9, 10, 11, 12, 13, 14, 15

## DIODE
designator D?
footprint Sma
pins: 1, 2

## DP83848CVV
designator U?, comment DP83848
PHYTER - Commercial Temperature  Single Port 10/100 Mb/s Ethernet Physical Layer Transceiver
footprint TQFP-48
pins: 1 TX_CLK, 2 TX_EN, 3 TXD_0, 4 TXD_1, 5 TXD_2, 6 TXD_3/SNI_MODE, 7 PWR_DOWN/INT, 8 NC, 9 NC1, 10 NC2, 11 NC3, 12 NC4, 13 RD-, 14 RD+, 15 AGND1, 16 TD-, 17 TD+, 18 PFBIN1, 19 AGND, 20 NC5, 21 NC6, 22 AVDD33, 23 PFBOUT, 24 RBIAS, 25 25MHz_OUT, 26 LED_ACT/COL/AN_EN, 27 LED_SPEED/AN1, 28 LED_LINK/AN0, 29 RESET_N, 30 MDIO, 31 MDC, 32 IOVDD33, 33 X2, 34 X1, 35 IOGND1, 36 DGND, 37 PFBIN2, 38 RX_CLK, 39 RX_DV/MII_MODE, 40 CRS/CRS_DV/LED_CFG, 41 RX_ER/MDIX_EN, 42 COL/PHYAD0, 43 RXD_0/PHYAD1, 44 RXD_1/PHYAD2, 45 RXD_2/PHYAD3, 46 RXD_3/PHYAD4, 47 IOGND, 48 IOVDD33_1

## DSK34
designator D?
High Conductance Fast Diode
footprint SOD-123
pins: 1 A, 2 K

## DTC114WCA
designator Q?
footprint SOT23-3
pins: 1 E, 2 B, 3 C

## ESDU5V0Y1
designator D?
TVS
footprint SOD-123
pins: 1 K, 2 A

## FB
designator FB?  (value not drawn)
Value: 220uH
footprint 1206
pins: 1, 2

## FCQ10A
designator D?  (value not drawn)
footprint TO-220AB
pins: 1, 2, 3

## FCQ20A03L
designator D?
footprint TO-220AB
pins: 1, 2, 3

## FM1701
designator U?
footprint SO-20
pins: 1 RSTPD, 2 CLKOUT, 3 CLKIN, 4 IRQ, 5 TVDD, 6 TX2, 7 TVSS, 8 NC, 9 DVSS, 10 MISO, 11 NC, 12 NSS, 13 MOSI, 14 SCK, 15 DVDD, 16 AVDD, 17 AUX, 18 AVSS, 19 RX, 20 VMID

## FM1702SL
designator U?
footprint SO-24
pins: 1 CLKIN, 2 IRQ, 3 MFIN, 4 TX1, 5 TVDD, 6 TX2, 7 TVSS, 8 C0, 9 C1, 10 C2, 11 DVSS, 12 MISO, 13 SCK, 14 MOSI, 15 NSS, 16 C3, 17 DVDD, 18 AVDD, 19 AUX, 20 AVSS, 21 RX, 22 VMID, 23 RSTPD, 24 CLKOUT

## Fuse
designator F?, comment fuse  (value not drawn)
footprint BK250-040
footprint 1206
footprint BK30-200
footprint 0805
footprint FUSE2
footprint T2A
footprint 2920
pins: 1, 2

## FX
designator FX?
固定孔
footprint FX 3  X 2
pins: 1

## GBU406
designator U?
footprint GBU406
pins: 1, 2, 3, 4

## GD32F403RCT6
designator U?
GD32F403单片机
footprint TQFP-64 (Thin QFP, 64-Leads, Body 10x10mm, Pitch 0.5mm, IPC Low Density)
pins: 1 VBAT, 2 PC13-TAMPER-RTC, 3 PC14-OSC32_IN, 4 PC15-OSC32_OUT, 5 OSC_IN/PD0, 6 OSC_OUT/PD1, 7 NRST, 8 PC0 (hiz), 9 PC1, 10 PC2, 11 PC3, 12 VSSA, 13 VDDA, 14 PA0-WKUP, 15 PA1, 16 PA2, 17 PA3, 18 VSS_4, 19 VDD_4, 20 PA4, 21 PA5, 22 PA6, 23 PA7, 24 PC4, 25 PC5, 26 PB0, 27 PB1, 28 PB2/BOOT1, 29 PB10, 30 PB11, 31 VSS_1, 32 VDD_1, 33 PB12, 34 PB13, 35 PB14, 36 PB15, 37 PC6, 38 PC7, 39 PC8, 40 PC9, 41 PA8, 42 PA9, 43 PA10, 44 PA11, 45 PA12, 46 PA13/JTMS/SWDIO, 47 VSS_2, 48 VDD_2, 49 PA14/JTCK/SWCLK, 50 PA15/JTDI, 51 PC10, 52 PC11, 53 PC12, 54 PD2, 55 PB3/JTDO, 56 PB4/JNTRST, 57 PB5, 58 PB6, 59 PB7, 60 BOOT0, 61 PB8, 62 PB9, 63 VSS_3, 64 VDD_3

## GD32F407RET6
designator U?
footprint TQFP-64 (Thin QFP, 64-Leads, Body 10x10mm, Pitch 0.5mm, IPC Low Density)
pins: 1 VBAT, 2 PC13-TAMPER-RTC, 3 PC14-OSC32IN, 4 PC15-OSC32OUT, 5 PH0-OSC_IN, 6 PH1-OSC_OUT, 7 NRST, 8 PC0, 9 PC1, 10 PC2, 11 PC3, 12 VSSA, 13 VDDA, 14 PA0-WKUP, 15 PA1, 16 PA2, 17 PA3, 18 VSS, 19 VDD, 20 PA4, 21 PA5, 22 PA6, 23 PA7, 24 PC4, 25 PC5, 26 PB0, 27 PB1, 28 PB2, 29 PB10, 30 PB11, 31 NC, 32 VDD, 33 PB12, 34 PB13, 35 PB14, 36 PB15, 37 PC6, 38 PC7, 39 PC8, 40 PC9, 41 PA8, 42 PA9, 43 PA10, 44 PA11, 45 PA12, 46 PA13, 47 NC, 48 VDD_2, 49 PA14, 50 PA15, 51 PC10, 52 PC11, 53 PC12, 54 PD2, 55 PB3, 56 PB4, 57 PB5, 58 PB6, 59 PB7, 60 BOOT0, 61 PB8, 62 PB9, 63 VSS, 64 VDD

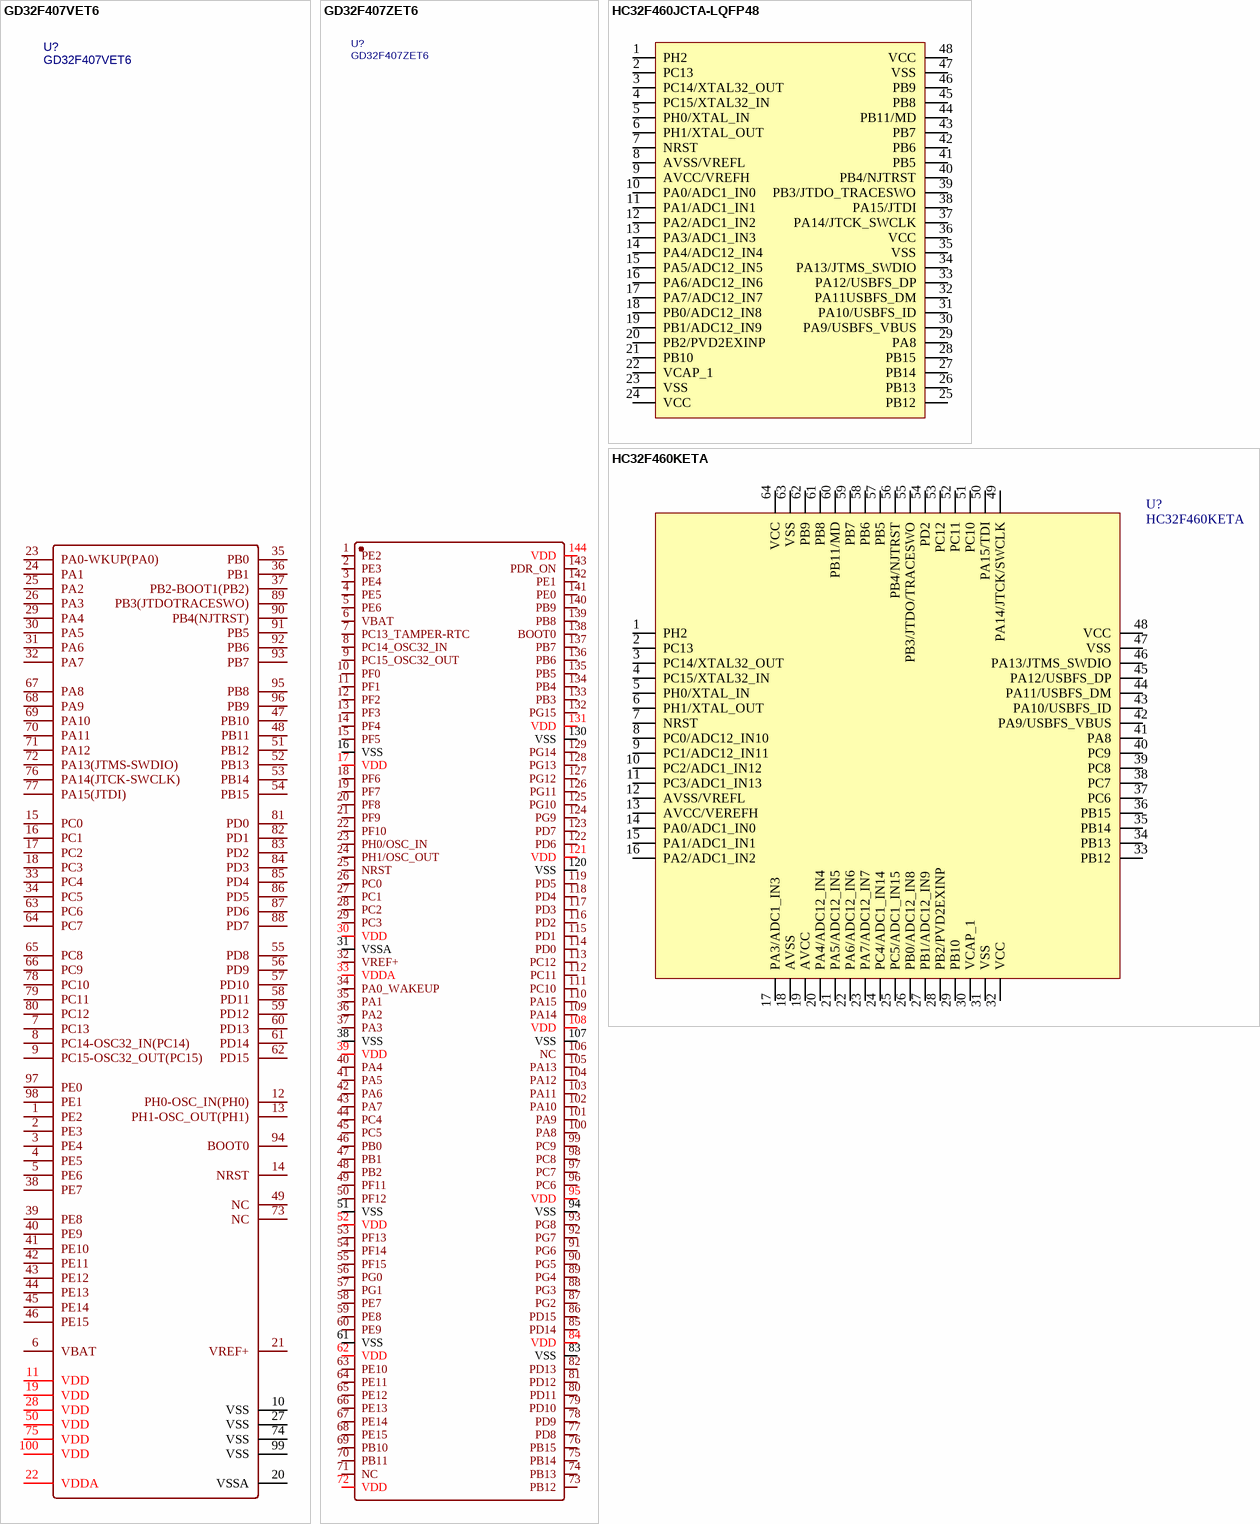
[diagram p4: symbols GD32F407VET6 to HC32F460KETA]

## GD32F407VET6
designator U?
footprint TQFP-100
pins: 1 PE2, 2 PE3, 3 PE4, 4 PE5, 5 PE6, 6 VBAT, 7 PC13, 8 PC14-OSC32_IN(PC14), 9 PC15-OSC32_OUT(PC15), 10 VSS, 11 VDD, 12 PH0-OSC_IN(PH0), 13 PH1-OSC_OUT(PH1), 14 NRST, 15 PC0, 16 PC1, 17 PC2, 18 PC3, 19 VDD, 20 VSSA, 21 VREF+, 22 VDDA, 23 PA0-WKUP(PA0), 24 PA1, 25 PA2, 26 PA3, 27 VSS, 28 VDD, 29 PA4, 30 PA5, 31 PA6, 32 PA7, 33 PC4, 34 PC5, 35 PB0, 36 PB1, 37 PB2-BOOT1(PB2), 38 PE7, 39 PE8, 40 PE9, 41 PE10, 42 PE11, 43 PE12, 44 PE13, 45 PE14, 46 PE15, 47 PB10, 48 PB11, 49 NC, 50 VDD, 51 PB12, 52 PB13, 53 PB14, 54 PB15, 55 PD8, 56 PD9, 57 PD10, 58 PD11, 59 PD12, 60 PD13, 61 PD14, 62 PD15, 63 PC6, 64 PC7, 65 PC8, 66 PC9, 67 PA8, 68 PA9, 69 PA10, 70 PA11, 71 PA12, 72 PA13(JTMS-SWDIO), 73 NC, 74 VSS, 75 VDD, 76 PA14(JTCK-SWCLK), 77 PA15(JTDI), 78 PC10, 79 PC11, 80 PC12, 81 PD0, 82 PD1, 83 PD2, 84 PD3, 85 PD4, 86 PD5, 87 PD6, 88 PD7, 89 PB3(JTDOTRACESWO), 90 PB4(NJTRST), 91 PB5, 92 PB6, 93 PB7, 94 BOOT0, 95 PB8, 96 PB9, 97 PE0, 98 PE1, 99 VSS, 100 VDD

## GD32F407ZET6
designator U?
BOM_Manufacturer: GigaDevice Semicon Beijing; Contributor: LCSC; BOM_Paste Type: expand; BOM_Supplier: LCSC; BOM_Supplier Part: C174272; BOM_Manufacturer Part: GD32F407ZET6; spicePre: U; spiceSymbolName: GD32F407ZET6
footprint TQFP-144
pins: 1 PE2, 2 PE3, 3 PE4, 4 PE5, 5 PE6, 6 VBAT, 7 PC13_TAMPER-RTC, 8 PC14_OSC32_IN, 9 PC15_OSC32_OUT, 10 PF0, 11 PF1, 12 PF2, 13 PF3, 14 PF4, 15 PF5, 16 VSS, 17 VDD, 18 PF6, 19 PF7, 20 PF8, 21 PF9, 22 PF10, 23 PH0/OSC_IN, 24 PH1/OSC_OUT, 25 NRST, 26 PC0, 27 PC1, 28 PC2, 29 PC3, 30 VDD, 31 VSSA, 32 VREF+, 33 VDDA, 34 PA0_WAKEUP, 35 PA1, 36 PA2, 37 PA3, 38 VSS, 39 VDD, 40 PA4, 41 PA5, 42 PA6, 43 PA7, 44 PC4, 45 PC5, 46 PB0, 47 PB1, 48 PB2, 49 PF11, 50 PF12, 51 VSS, 52 VDD, 53 PF13, 54 PF14, 55 PF15, 56 PG0, 57 PG1, 58 PE7, 59 PE8, 60 PE9, 61 VSS, 62 VDD, 63 PE10, 64 PE11, 65 PE12, 66 PE13, 67 PE14, 68 PE15, 69 PB10, 70 PB11, 71 NC, 72 VDD, 73 PB12, 74 PB13, 75 PB14, 76 PB15, 77 PD8, 78 PD9, 79 PD10, 80 PD11, 81 PD12, 82 PD13, 83 VSS, 84 VDD, 85 PD14, 86 PD15, 87 PG2, 88 PG3, 89 PG4, 90 PG5, 91 PG6, 92 PG7, 93 PG8, 94 VSS, 95 VDD, 96 PC6, 97 PC7, 98 PC8, 99 PC9, 100 PA8, 101 PA9, 102 PA10, 103 PA11, 104 PA12, 105 PA13, 106 NC, 107 VSS, 108 VDD, 109 PA14, 110 PA15, 111 PC10, 112 PC11, 113 PC12, 114 PD0, 115 PD1, 116 PD2, 117 PD3, 118 PD4, 119 PD5, 120 VSS, 121 VDD, 122 PD6, 123 PD7, 124 PG9, 125 PG10, 126 PG11, 127 PG12, 128 PG13, 129 PG14, 130 VSS, 131 VDD, 132 PG15, 133 PB3, 134 PB4, 135 PB5, 136 PB6, 137 PB7, 138 BOOT0, 139 PB8, 140 PB9, 141 PE0, 142 PE1, 143 PDR_ON, 144 VDD

## HC32F460JCTA-LQFP48
designator U?  (value not drawn)
Manufacturer: XHSC(小华); Add into BOM: yes; CPU Core: ARM Cortex-M4; Maximum Frequency: 200MHz; Supply Voltage Range: 1.8V~3.6V; Internal Oscillator: 有; External Clock Frequency Rang: 4MHz~24MHz; Program FLASH Size: 256KB; RAM Size: 192KB; GPIO Ports Number: 38; ADC (Units/Channels/bits): 2@x10ch/12bit; (E)PWM (Units/Channels/bits): 6@x16bit; 16Bit Timer Number: 8; CMP Number: 3; U(S)ART Number: 4; (Q)SPI Number: 5; CAN Number: 1; USB (H/D/OTG): 全速USB Host/Device; Peripherals / Functions / Protocol Stacks: 片载温度传感器；DMA；看门狗；硬件密码算法引擎；CRC校验；PWM；真随机数发生器；ECC内部纠错；SDIO；RTC实时时钟; Name: HC32F460JCTA-LQFP48; Symbol: HC32F460JCTA-LQFP48; Device: HC32F460JCTA-LQFP48; LCSC Part Name: ARM Cortex-M4 200MHz 闪存：256KB RAM：192KB; Supplier Part: C784662; Manufacturer Part: HC32F460JCTA-LQFP48; Supplier Footprint: LQFP-48; JLCPCB Part Class: Extended Part; Datasheet: https://atta.szlcsc.com/upload/public/pdf/source/20220613/462DCC9297103901DE596D2F6ECEB787.pdf; Supplier: LCSC; Convert to PCB: yes; EEPROM/Data FLASH Size: -; DAC (Units/Channels/bits): -; 8Bit Timer Number: -; 32Bit Timer Number: -; I2C Number: 3; I2S Number: 4; Operating Temperature Range: -40℃~+85℃
footprint TQFP-48
pins: 1 PH2, 2 PC13, 3 PC14/XTAL32_OUT, 4 PC15/XTAL32_IN, 5 PH0/XTAL_IN, 6 PH1/XTAL_OUT, 7 NRST, 8 AVSS/VREFL, 9 AVCC/VREFH, 10 PA0/ADC1_IN0, 11 PA1/ADC1_IN1, 12 PA2/ADC1_IN2, 13 PA3/ADC1_IN3, 14 PA4/ADC12_IN4, 15 PA5/ADC12_IN5, 16 PA6/ADC12_IN6, 17 PA7/ADC12_IN7, 18 PB0/ADC12_IN8, 19 PB1/ADC12_IN9, 20 PB2/PVD2EXINP, 21 PB10, 22 VCAP_1, 23 VSS, 24 VCC, 25 PB12, 26 PB13, 27 PB14, 28 PB15, 29 PA8, 30 PA9/USBFS_VBUS, 31 PA10/USBFS_ID, 32 PA11USBFS_DM, 33 PA12/USBFS_DP, 34 PA13/JTMS_SWDIO, 35 VSS, 36 VCC, 37 PA14/JTCK_SWCLK, 38 PA15/JTDI, 39 PB3/JTDO_TRACESWO, 40 PB4/NJTRST, 41 PB5, 42 PB6, 43 PB7, 44 PB11/MD, 45 PB8, 46 PB9, 47 VSS, 48 VCC

## HC32F460KETA
designator U?
footprint LQFP-64 (Thin QFP, 64-Leads, Body 10x10mm, Pitch 0.5mm, IPC Low Density)
footprint ZLQFP64
pins: 1 PH2, 2 PC13, 3 PC14/XTAL32_OUT, 4 PC15/XTAL32_IN, 5 PH0/XTAL_IN, 6 PH1/XTAL_OUT, 7 NRST, 8 PC0/ADC12_IN10, 9 PC1/ADC12_IN11, 10 PC2/ADC1_IN12, 11 PC3/ADC1_IN13, 12 AVSS/VREFL, 13 AVCC/VEREFH, 14 PA0/ADC1_IN0, 15 PA1/ADC1_IN1, 16 PA2/ADC1_IN2, 17 PA3/ADC1_IN3, 18 AVSS, 19 AVCC, 20 PA4/ADC12_IN4, 21 PA5/ADC12_IN5, 22 PA6/ADC12_IN6, 23 PA7/ADC12_IN7, 24 PC4/ADC1_IN14, 25 PC5/ADC1_IN15, 26 PB0/ADC12_IN8, 27 PB1/ADC12_IN9, 28 PB2/PVD2EXINP, 29 PB10, 30 VCAP_1, 31 VSS, 32 VCC, 33 PB12, 34 PB13, 35 PB14, 36 PB15, 37 PC6, 38 PC7, 39 PC8, 40 PC9, 41 PA8, 42 PA9/USBFS_VBUS, 43 PA10/USBFS_ID, 44 PA11/USBFS_DM, 45 PA12/USBFS_DP, 46 PA13/JTMS_SWDIO, 47 VSS, 48 VCC, 49 PA14/JTCK/SWCLK, 50 PA15/TDI, 51 PC10, 52 PC11, 53 PC12, 54 PD2, 55 PB3/JTDO/TRACESWO, 56 PB4/NJTRST, 57 PB5, 58 PB6, 59 PB7, 60 PB11/MD, 61 PB8, 62 PB9, 63 VSS, 64 VCC

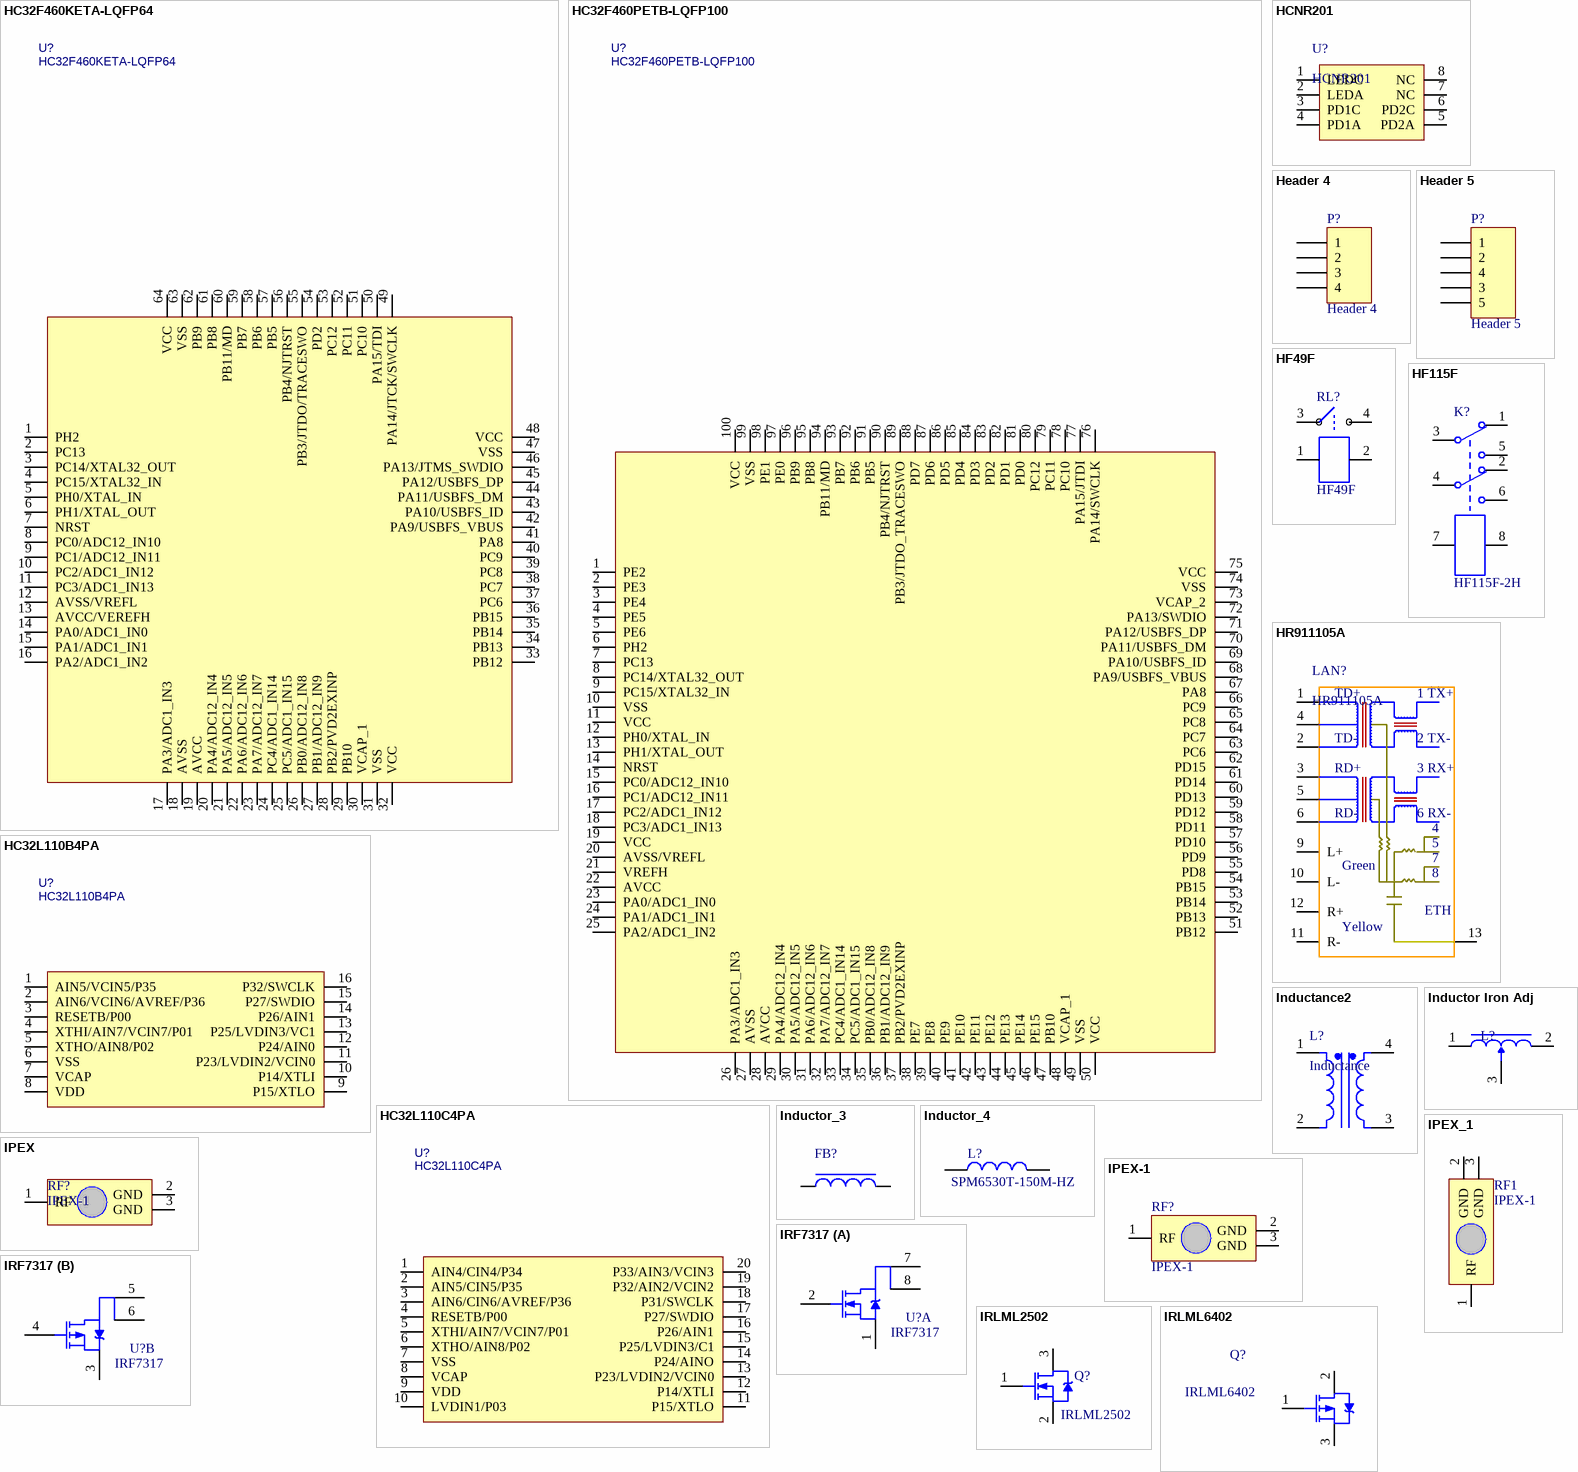
[diagram p5: symbols HC32F460KETA-LQFP64 to IRLML6402]

## HC32F460KETA-LQFP64
designator U?
footprint TQFP-64 (Thin QFP, 64-Leads, Body 10x10mm, Pitch 0.5mm, IPC Low Density)
pins: 1 PH2, 2 PC13, 3 PC14/XTAL32_OUT, 4 PC15/XTAL32_IN, 5 PH0/XTAL_IN, 6 PH1/XTAL_OUT, 7 NRST, 8 PC0/ADC12_IN10, 9 PC1/ADC12_IN11, 10 PC2/ADC1_IN12, 11 PC3/ADC1_IN13, 12 AVSS/VREFL, 13 AVCC/VEREFH, 14 PA0/ADC1_IN0, 15 PA1/ADC1_IN1, 16 PA2/ADC1_IN2, 17 PA3/ADC1_IN3, 18 AVSS, 19 AVCC, 20 PA4/ADC12_IN4, 21 PA5/ADC12_IN5, 22 PA6/ADC12_IN6, 23 PA7/ADC12_IN7, 24 PC4/ADC1_IN14, 25 PC5/ADC1_IN15, 26 PB0/ADC12_IN8, 27 PB1/ADC12_IN9, 28 PB2/PVD2EXINP, 29 PB10, 30 VCAP_1, 31 VSS, 32 VCC, 33 PB12, 34 PB13, 35 PB14, 36 PB15, 37 PC6, 38 PC7, 39 PC8, 40 PC9, 41 PA8, 42 PA9/USBFS_VBUS, 43 PA10/USBFS_ID, 44 PA11/USBFS_DM, 45 PA12/USBFS_DP, 46 PA13/JTMS_SWDIO, 47 VSS, 48 VCC, 49 PA14/JTCK/SWCLK, 50 PA15/TDI, 51 PC10, 52 PC11, 53 PC12, 54 PD2, 55 PB3/JTDO/TRACESWO, 56 PB4/NJTRST, 57 PB5, 58 PB6, 59 PB7, 60 PB11/MD, 61 PB8, 62 PB9, 63 VSS, 64 VCC

## HC32F460PETB-LQFP100
designator U?
footprint TQFP-100
pins: 1 PE2, 2 PE3, 3 PE4, 4 PE5, 5 PE6, 6 PH2, 7 PC13, 8 PC14/XTAL32_OUT, 9 PC15/XTAL32_IN, 10 VSS, 11 VCC, 12 PH0/XTAL_IN, 13 PH1/XTAL_OUT, 14 NRST, 15 PC0/ADC12_IN10, 16 PC1/ADC12_IN11, 17 PC2/ADC1_IN12, 18 PC3/ADC1_IN13, 19 VCC, 20 AVSS/VREFL, 21 VREFH, 22 AVCC, 23 PA0/ADC1_IN0, 24 PA1/ADC1_IN1, 25 PA2/ADC1_IN2, 26 PA3/ADC1_IN3, 27 AVSS, 28 AVCC, 29 PA4/ADC12_IN4, 30 PA5/ADC12_IN5, 31 PA6/ADC12_IN6, 32 PA7/ADC12_IN7, 33 PC4/ADC1_IN14, 34 PC5/ADC1_IN15, 35 PB0/ADC12_IN8, 36 PB1/ADC12_IN9, 37 PB2/PVD2EXINP, 38 PE7, 39 PE8, 40 PE9, 41 PE10, 42 PE11, 43 PE12, 44 PE13, 45 PE14, 46 PE15, 47 PB10, 48 VCAP_1, 49 VSS, 50 VCC, 51 PB12, 52 PB13, 53 PB14, 54 PB15, 55 PD8, 56 PD9, 57 PD10, 58 PD11, 59 PD12, 60 PD13, 61 PD14, 62 PD15, 63 PC6, 64 PC7, 65 PC8, 66 PC9, 67 PA8, 68 PA9/USBFS_VBUS, 69 PA10/USBFS_ID, 70 PA11/USBFS_DM, 71 PA12/USBFS_DP, 72 PA13/SWDIO, 73 VCAP_2, 74 VSS, 75 VCC, 76 PA14/SWCLK, 77 PA15/JTDI, 78 PC10, 79 PC11, 80 PC12, 81 PD0, 82 PD1, 83 PD2, 84 PD3, 85 PD4, 86 PD5, 87 PD6, 88 PD7, 89 PB3/JTDO_TRACESWO, 90 PB4/NJTRST, 91 PB5, 92 PB6, 93 PB7, 94 PB11/MD, 95 PB8, 96 PB9, 97 PE0, 98 PE1, 99 VSS, 100 VCC

## HC32L110B4PA
designator U?
footprint TSSOP-16
pins: 1 AIN5/VCIN5/P35, 2 AIN6/VCIN6/AVREF/P36, 3 RESETB/P00, 4 XTHI/AIN7/VCIN7/P01, 5 XTHO/AIN8/P02, 6 VSS, 7 VCAP, 8 VDD, 9 P15/XTLO, 10 P14/XTLI, 11 P23/LVDIN2/VCIN0, 12 P24/AIN0, 13 P25/LVDIN3/VC1, 14 P26/AIN1, 15 P27/SWDIO, 16 P32/SWCLK

## HC32L110C4PA
designator U?
footprint TSSOP-20
pins: 1 AIN4/CIN4/P34, 2 AIN5/CIN5/P35, 3 AIN6/CIN6/AVREF/P36, 4 RESETB/P00, 5 XTHI/AIN7/VCIN7/P01, 6 XTHO/AIN8/P02, 7 VSS, 8 VCAP, 9 VDD, 10 LVDIN1/P03, 11 P15/XTLO, 12 P14/XTLI, 13 P23/LVDIN2/VCIN0, 14 P24/AINO, 15 P25/LVDIN3/C1, 16 P26/AIN1, 17 P27/SWDIO, 18 P31/SWCLK, 19 P32/AIN2/VCIN2, 20 P33/AIN3/VCIN3

## HCNR201
designator U?
footprint SO-8-b
pins: 1 LEDC, 2 LEDA, 3 PD1C, 4 PD1A, 5 PD2A, 6 PD2C, 7 NC, 8 NC

## Header 4
designator P?
Header, 4-Pin; LatestRevisionDate: 17-Jul-2002; LatestRevisionNote: Re-released for DXP Platform.; Publisher: Altium Limited
footprint HDR1X4 (Connector; Header; 4 Position)
signal-integrity model Connector
footprint 航插4芯弯头 (GX12MM)
pins: 1, 2, 3, 4

## Header 5
designator P?
Header, 5-Pin; LatestRevisionDate: 17-Jul-2002; LatestRevisionNote: Re-released for DXP Platform.; Publisher: Altium Limited
footprint HDR1X5 (Connector; Header; 5 Position)
signal-integrity model Connector
footprint ZCON5 (2.54mm)
pins: 1, 2, 3, 4, 5

## HF49F
designator RL?
footprint JGC-4F-05D-0M
footprint HF49FD
pins: 1, 2, 3, 4

## HF115F
designator K?, comment HF115F-2H
Dual-Pole Dual-Throw Relay
footprint HF-1115F-2H
pins: 1, 2, 3, 4, 5, 6, 7, 8

## HR911105A
designator LAN?
pins: 1, 2, 3, 4, 5, 6, 9 L+, 10 L-, 11 R-, 12 R+, 13
text: TD+; 1 TX+; TD-; 2 TX-; RD+; 3 RX+; RD-; 6 RX-; 7; Green; 8; ETH; Yellow

## Inductance2
designator L?, comment Inductance
footprint UU10.5
pins: 1, 2, 3, 4

## Inductor Iron Adj
designator L?, comment Inductor Iron  (value not drawn)
Adjustable Magnetic-Core Inductor
footprint 3296W
pins: 1, 2, 3

## Inductor_3
designator FB?, comment FB  (value not drawn)
Magnetic-Core Inductor
footprint MURATA_13 X 13
footprint MURATA_7 X 7
pins: 1, 2

## Inductor_4
designator L?, comment SPM6530T-150M-HZ
footprint 10145L (10.1mm*10.1mm*45mm)
footprint 7060L
footprint 7065L
footprint 7065L
pins: 1, 2

## IPEX
designator RF?, comment IPEX-1
footprint ANT_IPEX
pins: 1 RF, 2 GND, 3 GND

## IPEX-1
designator RF?
IPEX天线座
footprint ANT_IPEX
footprint SMA天线座
pins: 1 RF, 2 GND, 3 GND

## IPEX_1
designator RF1, comment IPEX-1
footprint ANT_IPEX
pins: 1 RF, 2 GND, 3 GND

## IRF7317
designator U?
HEXFET Power MOSFET
footprint SO-8
part A pins: 1 S1, 2 G1, 7 D1, 8 D1 (power)
part B pins: 3 S2, 4 G2, 5 D2, 6 D2 (power)

## IRLML2502
designator Q?
N-Channel Power MOSFET
footprint SOT23-3
pins: 1 G, 2 S, 3 D

## IRLML6402
designator Q?
P-Channel Power MOSFET
footprint SOT23-3
pins: 1 G, 2 D, 3 S

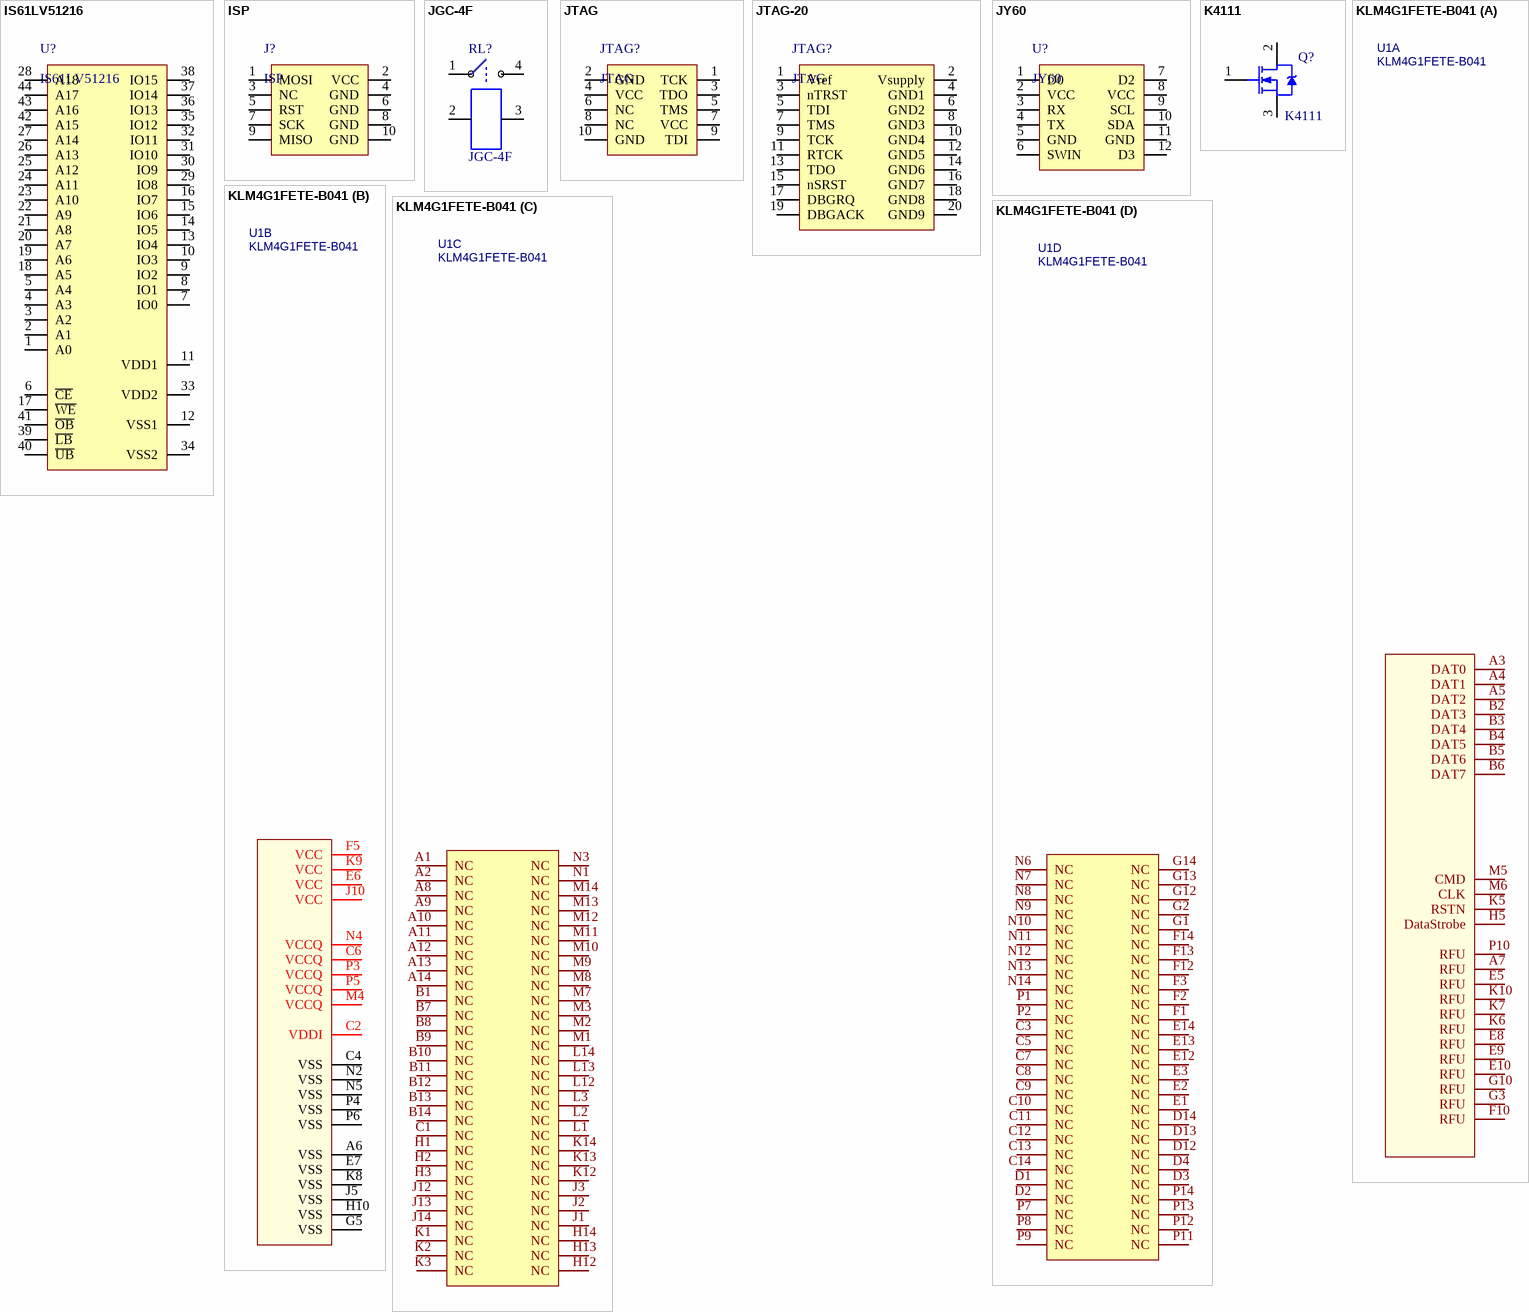
[diagram p6: symbols IS61LV51216 to KLM4G1FETE-B041]

## IS61LV51216
designator U?
footprint TSOP-44
pins: 1 A0, 2 A1, 3 A2, 4 A3, 5 A4, 6 ~{CE}, 7 IO0, 8 IO1, 9 IO2, 10 IO3, 11 VDD1, 12 VSS1, 13 IO4, 14 IO5, 15 IO6, 16 IO7, 17 ~{WE}, 18 A5, 19 A6, 20 A7, 21 A8, 22 A9, 23 A10, 24 A11, 25 A12, 26 A13, 27 A14, 28 A18, 29 IO8, 30 IO9, 31 IO10, 32 IO11, 33 VDD2, 34 VSS2, 35 IO12, 36 IO13, 37 IO14, 38 IO15, 39 ~{LB}, 40 ~{UB}, 41 ~{OB}, 42 A15, 43 A16, 44 A17

## ISP
designator J?
footprint JTGA-10
pins: 1 MOSI, 2 VCC, 3 NC, 4 GND, 5 RST, 6 GND, 7 SCK, 8 GND, 9 MISO, 10 GND

## JGC-4F
designator RL?
固态继电器
footprint JGC-4F-05D-0M
pins: 1, 2, 3, 4

## JTAG
designator JTAG?
footprint JTGA-10
pins: 1 TCK, 2 GND, 3 TDO, 4 VCC, 5 TMS, 6 NC, 7 VCC, 8 NC, 9 TDI, 10 GND

## JTAG-20
designator JTAG?, comment JTAG
20-Pin JTAG接口
footprint JATG
pins: 1 Vref, 2 Vsupply, 3 nTRST, 4 GND1, 5 TDI, 6 GND2, 7 TMS, 8 GND3, 9 TCK, 10 GND4, 11 RTCK, 12 GND5, 13 TDO, 14 GND6, 15 nSRST, 16 GND7, 17 DBGRQ, 18 GND8, 19 DBGACK, 20 GND9

## JY60
designator U?
footprint JY60
pins: 1 D0, 2 VCC, 3 RX, 4 TX, 5 GND, 6 SWIN, 7 D2, 8 VCC, 9 SCL, 10 SDA, 11 GND, 12 D3

## K4111
designator Q?
N-Channel MOSFET
footprint TO-220AB
pins: 1 G, 2 S, 3 D

## KLM4G1FETE-B041
designator U1
BOM_Manufacturer: Samsung; Contributor: LCSC; BOM_Supplier: LCSC; BOM_Supplier Part: C500273; BOM_Manufacturer Part: KLM4G1FETE-B041; spicePre: U; spiceSymbolName: KLM4G1FETE-B041
footprint FBGA-153_L11.0-W10.0-P0.50_KLM4G1FETE-B041
part A pins: A3 DAT0, A4 DAT1, A5 DAT2, A7 RFU, B2 DAT3, B3 DAT4, B4 DAT5, B5 DAT6, B6 DAT7, E5 RFU, E8 RFU, E9 RFU, E10 RFU, F10 RFU, G3 RFU, G10 RFU, H5 DataStrobe, K5 RSTN, K6 RFU, K7 RFU, K10 RFU, M5 CMD, M6 CLK, P10 RFU
part B pins: A6 VSS, C2 VDDI, C4 VSS, C6 VCCQ, E6 VCC, E7 VSS, F5 VCC, G5 VSS, H10 VSS, J5 VSS, J10 VCC, K8 VSS, K9 VCC, M4 VCCQ, N2 VSS, N4 VCCQ, N5 VSS, P3 VCCQ, P4 VSS, P5 VCCQ, P6 VSS
part C pins: A1 NC, A2 NC, A8 NC, A9 NC, A10 NC, A11 NC, A12 NC, A13 NC, A14 NC, B1 NC, B7 NC, B8 NC, B9 NC, B10 NC, B11 NC, B12 NC, B13 NC, B14 NC, C1 NC, H1 NC, H2 NC, H3 NC, H12 NC, H13 NC, H14 NC, J1 NC, J2 NC, J3 NC, J12 NC, J13 NC, J14 NC, K1 NC, K2 NC, K3 NC, K12 NC, K13 NC, K14 NC, L1 NC, L2 NC, L3 NC, L12 NC, L13 NC, L14 NC, M1 NC, M2 NC, M3 NC, M7 NC, M8 NC, M9 NC, M10 NC, M11 NC, M12 NC, M13 NC, M14 NC, N1 NC, N3 NC
part D pins: C3 NC, C5 NC, C7 NC, C8 NC, C9 NC, C10 NC, C11 NC, C12 NC, C13 NC, C14 NC, D1 NC, D2 NC, D3 NC, D4 NC, D12 NC, D13 NC, D14 NC, E1 NC, E2 NC, E3 NC, E12 NC, E13 NC, E14 NC, F1 NC, F2 NC, F3 NC, F12 NC, F13 NC, F14 NC, G1 NC, G2 NC, G12 NC, G13 NC, G14 NC, N6 NC, N7 NC, N8 NC, N9 NC, N10 NC, N11 NC, N12 NC, N13 NC, N14 NC, P1 NC, P2 NC, P7 NC, P8 NC, P9 NC, P11 NC, P12 NC, P13 NC, P14 NC

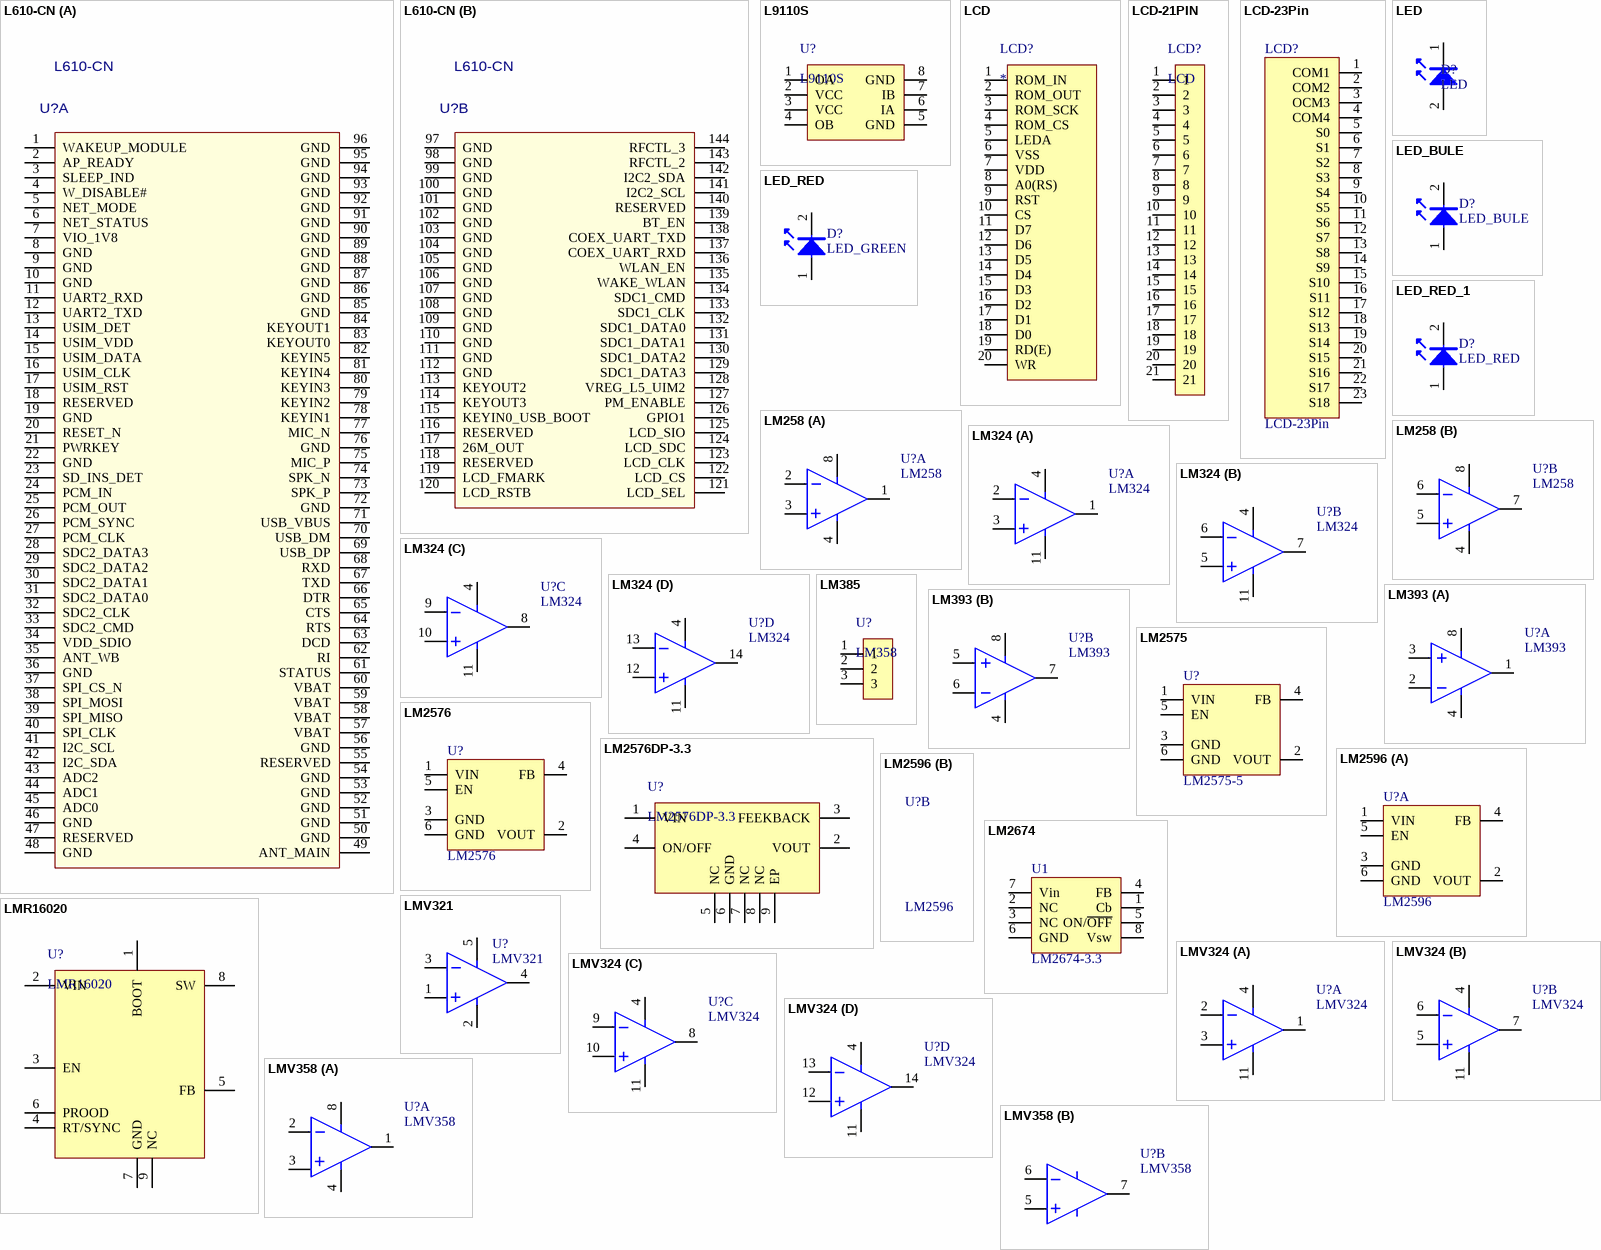
[diagram p7: symbols L610-CN to LMV358]

## L610-CN
designator U?
L610-CN-00-00_PCBA,CAT1无线通信模块，4G_FDD:B1/B3/B5/B8，4G_TDD:B34/B38/B39/B40/B41; Part Number: 61.0610.00.00.02; Part Name: 无线通信模块; Manufacturer: FIBOCOM; PCB DECAL: LCC-31.00X28.00-144PIN-ADP; Geometry.Height: 0.3mm; Value: L610-CN-00-00; Package: LCC-31.00X28.00-144PIN
footprint LCC-31.00X28.00-144PIN-ADP
part A pins: 1 WAKEUP_MODULE, 2 AP_READY, 3 SLEEP_IND, 4 W_DISABLE#, 5 NET_MODE, 6 NET_STATUS, 7 VIO_1V8, 8 GND, 9 GND, 10 GND, 11 UART2_RXD, 12 UART2_TXD, 13 USIM_DET, 14 USIM_VDD, 15 USIM_DATA, 16 USIM_CLK, 17 USIM_RST, 18 RESERVED, 19 GND, 20 RESET_N, 21 PWRKEY, 22 GND, 23 SD_INS_DET, 24 PCM_IN, 25 PCM_OUT, 26 PCM_SYNC, 27 PCM_CLK, 28 SDC2_DATA3, 29 SDC2_DATA2, 30 SDC2_DATA1, 31 SDC2_DATA0, 32 SDC2_CLK, 33 SDC2_CMD, 34 VDD_SDIO, 35 ANT_WB, 36 GND, 37 SPI_CS_N, 38 SPI_MOSI, 39 SPI_MISO, 40 SPI_CLK, 41 I2C_SCL, 42 I2C_SDA, 43 ADC2, 44 ADC1, 45 ADC0, 46 GND, 47 RESERVED, 48 GND, 49 ANT_MAIN, 50 GND, 51 GND, 52 GND, 53 GND, 54 GND, 55 RESERVED, 56 GND, 57 VBAT, 58 VBAT, 59 VBAT, 60 VBAT, 61 STATUS, 62 RI, 63 DCD, 64 RTS, 65 CTS, 66 DTR, 67 TXD, 68 RXD, 69 USB_DP, 70 USB_DM, 71 USB_VBUS, 72 GND, 73 SPK_P, 74 SPK_N, 75 MIC_P, 76 GND, 77 MIC_N, 78 KEYIN1, 79 KEYIN2, 80 KEYIN3, 81 KEYIN4, 82 KEYIN5, 83 KEYOUT0, 84 KEYOUT1, 85 GND, 86 GND, 87 GND, 88 GND, 89 GND, 90 GND, 91 GND, 92 GND, 93 GND, 94 GND, 95 GND, 96 GND
part B pins: 97 GND, 98 GND, 99 GND, 100 GND, 101 GND, 102 GND, 103 GND, 104 GND, 105 GND, 106 GND, 107 GND, 108 GND, 109 GND, 110 GND, 111 GND, 112 GND, 113 KEYOUT2, 114 KEYOUT3, 115 KEYIN0_USB_BOOT, 116 RESERVED, 117 26M_OUT, 118 RESERVED, 119 LCD_FMARK, 120 LCD_RSTB, 121 LCD_SEL, 122 LCD_CS, 123 LCD_CLK, 124 LCD_SDC, 125 LCD_SIO, 126 GPIO1, 127 PM_ENABLE, 128 VREG_L5_UIM2, 129 SDC1_DATA3, 130 SDC1_DATA2, 131 SDC1_DATA1, 132 SDC1_DATA0, 133 SDC1_CLK, 134 SDC1_CMD, 135 WAKE_WLAN, 136 WLAN_EN, 137 COEX_UART_RXD, 138 COEX_UART_TXD, 139 BT_EN, 140 RESERVED, 141 I2C2_SCL, 142 I2C2_SDA, 143 RFCTL_2, 144 RFCTL_3

## L9110S
designator U?
电机驱动模块
footprint SO-8
pins: 1 OA, 2 VCC, 3 VCC, 4 OB, 5 GND, 6 IA, 7 IB, 8 GND

## LCD
designator LCD?
pins: 1 ROM_IN, 2 ROM_OUT, 3 ROM_SCK, 4 ROM_CS, 5 LEDA, 6 VSS, 7 VDD, 8 A0(RS), 9 RST, 10 CS, 11 D7, 12 D6, 13 D5, 14 D4, 15 D3, 16 D2, 17 D1, 18 D0, 19 RD(E), 20 WR

## LCD-21PIN
designator LCD?, comment LCD
footprint LCD-21Pin
pins: 1, 2, 3, 4, 5, 6, 7, 8, 9, 10, 11, 12, 13, 14, 15, 16, 17, 18, 19, 20, 21

## LCD-23Pin
designator LCD?
footprint LCD-23Pin
pins: 1 COM1, 2 COM2, 3 OCM3, 4 COM4, 5 S0, 6 S1, 7 S2, 8 S3, 9 S4, 10 S5, 11 S6, 12 S7, 13 S8, 14 S9, 15 S10, 16 S11, 17 S12, 18 S13, 19 S14, 20 S15, 21 S16, 22 S17, 23 S18

## LED
designator D?
footprint LED_0805
footprint LED-D3
footprint LED_0603
pins: 1 A, 2 K

## LED_BULE
designator D?
LED蓝色
footprint 0603D
footprint 0603LED
footprint 发光二极管-浮空 (2.54mm间距)
footprint 0805LED
pins: 1 A, 2 K

## LED_RED
designator D?, comment LED_GREEN
LED红色
footprint 0603D
footprint 0603LED
footprint 发光二极管-浮空 (2.54mm间距)
footprint 0805LED
pins: 1 A, 2 K

## LED_RED_1
designator D?, comment LED_RED
LED红色
footprint 0603D
footprint 0603LED
footprint 发光二极管-浮空 (2.54mm间距)
footprint 0805LED
pins: 1 A, 2 K

## LM258
designator U?
footprint SOP-16
footprint PDSO-16
footprint SO-8
pins on every part: 4 V- (power), 8 V+ (power)
part A pins: 1 OUT, 2 IN-, 3 IN+
part B pins: 5 IN+, 6 IN-, 7 OUT

## LM324
designator U?
footprint SOP-16
footprint PDSO-16
footprint SO-14
pins on every part: 4 V+ (power), 11 V- (power)
part A pins: 1 OUT, 2 IN-, 3 IN+
part B pins: 5 IN+, 6 IN-, 7 OUT
part C pins: 8 OUT, 9 IN-, 10 IN+
part D pins: 12 IN+, 13 IN-, 14 OUT

## LM385
designator U?, comment LM358
footprint TO-92 (TO, Flat Index; 3 In-Line, Axial Leads; Body Dia. 4.8mm; Leads 0.55 x 0.51 mm (max))
pins: 1, 2, 3

## LM393
designator U?
Dual Operational Amplifier
footprint SO-8
pins on every part: 4 V- (power), 8 V+ (power)
part A pins: 1 OUT, 2 IN-, 3 IN+
part B pins: 5 IN+, 6 IN-, 7 OUT

## LM2575
designator U?, comment LM2575-5
1.0 A, Adjustable Output  Voltage, Step?Down  Switching Regulator
footprint TO-263-5
pins: 1 VIN, 2 VOUT, 3 GND, 4 FB, 5 EN, 6 GND

## LM2576
designator U?
3.0 A, Adjustable Output  Voltage, StepDown  Switching Regulator
footprint TO-263-5
pins: 1 VIN, 2 VOUT, 3 GND, 4 FB, 5 EN, 6 GND

## LM2576DP-3.3
designator U?
footprint MP4560DN_FOOTPRINT
pins: 1 VIN, 2 VOUT, 3 FEEKBACK, 4 ON/OFF, 5 NC, 6 GND, 7 NC, 8 NC, 9 EP

## LM2596
designator U?
3.0 A, Adjustable Output  Voltage, StepDown  Switching Regulator
footprint TO-263-5
part A pins: 1 VIN, 2 VOUT, 3 GND, 4 FB, 5 EN, 6 GND

## LM2674
designator U1, comment LM2674-3.3
500 mA Step-Down Voltage Regulator
footprint DIP-8
footprint SO-8
pins: 1 Cb, 2 NC (hiz), 3 NC (hiz), 4 FB, 5 ON/~{OFF}, 6 GND (power), 7 Vin (power), 8 Vsw

## LMR16020
designator U?
footprint MP4560DN_FOOTPRINT
pins: 1 BOOT, 2 VIN, 3 EN, 4 RT/SYNC, 5 FB, 6 PROOD , 7 GND, 8 SW, 9 NC

## LMV321
designator U?
Dual Operational Amplifier
footprint SOT23-5
pins: 1 IN+, 2 V- (power), 3 IN-, 4 OUT, 5 V+ (power)

## LMV324
designator U?
Low-VoltageRail-to-RailOutputOperationalAmplifiers
footprint SOP-16
footprint PDSO-16
footprint SO-14
pins on every part: 4 V+ (power), 11 V- (power)
part A pins: 1 OUT, 2 IN-, 3 IN+
part B pins: 5 IN+, 6 IN-, 7 OUT
part C pins: 8 OUT, 9 IN-, 10 IN+
part D pins: 12 IN+, 13 IN-, 14 OUT

## LMV358
designator U?
Low-VoltageRail-to-RailOutputOperationalAmplifiers
footprint SO-8
part A pins: 1 OUT, 2 IN-, 3 IN+, 4 V- (power), 8 V+ (power)
part B pins: 5 IN+, 6 IN-, 7 OUT

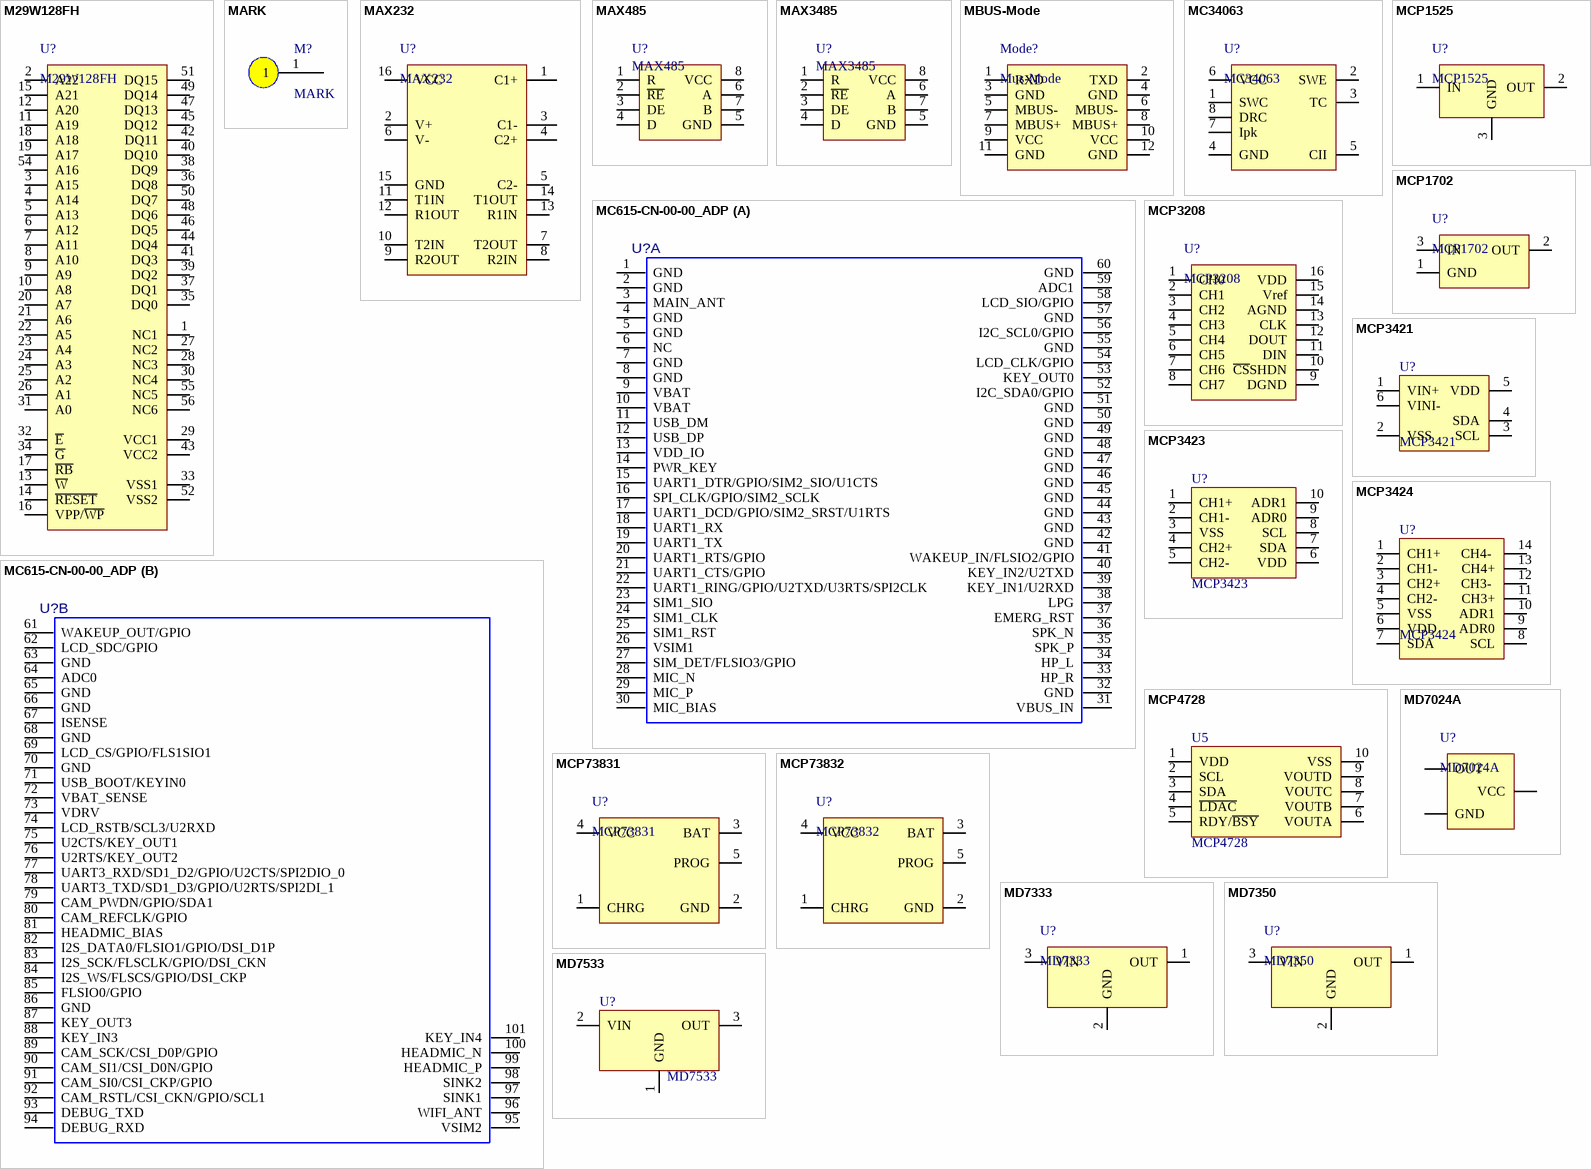
[diagram p8: symbols M29W128FH to MD7533]

## M29W128FH
designator U?
footprint TSOP-56
pins: 1 NC1, 2 A22, 3 A15, 4 A14, 5 A13, 6 A12, 7 A11, 8 A10, 9 A9, 10 A8, 11 A19, 12 A20, 13 ~{W}, 14 ~{RESET}, 15 A21, 16 VPP/~{WP}, 17 ~{RB}, 18 A18, 19 A17, 20 A7, 21 A6, 22 A5, 23 A4, 24 A3, 25 A2, 26 A1, 27 NC2, 28 NC3, 29 VCC1, 30 NC4, 31 A0, 32 ~{E}, 33 VSS1, 34 ~{G}, 35 DQ0, 36 DQ8, 37 DQ1, 38 DQ9, 39 DQ2, 40 DQ10, 41 DQ3, 42 DQ11, 43 VCC2, 44 DQ4, 45 DQ12, 46 DQ5, 47 DQ13, 48 DQ6, 49 DQ14, 50 DQ7, 51 DQ15, 52 VSS2, 54 A16, 55 NC5, 56 NC6

## MARK
designator M?
footprint MARK
pins: 1

## MAX232
designator U?
footprint SO-16
footprint TSSOP-16
pins: 1 C1+, 2 V+, 3 C1-, 4 C2+, 5 C2-, 6 V-, 7 T2OUT, 8 R2IN, 9 R2OUT, 10 T2IN, 11 T1IN, 12 R1OUT, 13 R1IN, 14 T1OUT, 15 GND, 16 VCC

## MAX485
designator U?
RS485
footprint SO-8
pins: 1 R, 2 ~{RE}, 3 DE, 4 D, 5 GND, 6 A, 7 B, 8 VCC

## MAX3485
designator U?
RS485
footprint SO-8
pins: 1 R, 2 ~{RE}, 3 DE, 4 D, 5 GND, 6 A, 7 B, 8 VCC

## MBUS-Mode
designator Mode?, comment Mus-Mode
MBUS主站模块
footprint MBUS-Mode
pins: 1 RXD, 2 TXD, 3 GND, 4 GND, 5 MBUS-, 6 MBUS-, 7 MBUS+, 8 MBUS+, 9 VCC, 10 VCC, 11 GND, 12 GND

## MC615-CN-00-00_ADP
designator U?  (value not drawn)
footprint MC615-20.2X22.2-101P-ADP
part A pins: 1 GND, 2 GND, 3 MAIN_ANT, 4 GND, 5 GND, 6 NC, 7 GND, 8 GND, 9 VBAT, 10 VBAT, 11 USB_DM, 12 USB_DP, 13 VDD_IO, 14 PWR_KEY, 15 UART1_DTR/GPIO/SIM2_SIO/U1CTS, 16 SPI_CLK/GPIO/SIM2_SCLK, 17 UART1_DCD/GPIO/SIM2_SRST/U1RTS, 18 UART1_RX, 19 UART1_TX, 20 UART1_RTS/GPIO, 21 UART1_CTS/GPIO, 22 UART1_RING/GPIO/U2TXD/U3RTS/SPI2CLK, 23 SIM1_SIO, 24 SIM1_CLK, 25 SIM1_RST, 26 VSIM1, 27 SIM_DET/FLSIO3/GPIO, 28 MIC_N, 29 MIC_P, 30 MIC_BIAS, 31 VBUS_IN, 32 GND, 33 HP_R, 34 HP_L, 35 SPK_P, 36 SPK_N, 37 EMERG_RST, 38 LPG, 39 KEY_IN1/U2RXD, 40 KEY_IN2/U2TXD, 41 WAKEUP_IN/FLSIO2/GPIO, 42 GND, 43 GND, 44 GND, 45 GND, 46 GND, 47 GND, 48 GND, 49 GND, 50 GND, 51 GND, 52 I2C_SDA0/GPIO, 53 KEY_OUT0, 54 LCD_CLK/GPIO, 55 GND, 56 I2C_SCL0/GPIO, 57 GND, 58 LCD_SIO/GPIO, 59 ADC1, 60 GND
part B pins: 61 WAKEUP_OUT/GPIO, 62 LCD_SDC/GPIO, 63 GND, 64 ADC0, 65 GND, 66 GND, 67 ISENSE, 68 GND, 69 LCD_CS/GPIO/FLS1SIO1, 70 GND, 71 USB_BOOT/KEYIN0, 72 VBAT_SENSE, 73 VDRV, 74 LCD_RSTB/SCL3/U2RXD, 75 U2CTS/KEY_OUT1, 76 U2RTS/KEY_OUT2, 77 UART3_RXD/SD1_D2/GPIO/U2CTS/SPI2DIO_0, 78 UART3_TXD/SD1_D3/GPIO/U2RTS/SPI2DI_1, 79 CAM_PWDN/GPIO/SDA1, 80 CAM_REFCLK/GPIO, 81 HEADMIC_BIAS, 82 I2S_DATA0/FLSIO1/GPIO/DSI_D1P, 83 I2S_SCK/FLSCLK/GPIO/DSI_CKN, 84 I2S_WS/FLSCS/GPIO/DSI_CKP, 85 FLSIO0/GPIO, 86 GND, 87 KEY_OUT3, 88 KEY_IN3, 89 CAM_SCK/CSI_D0P/GPIO, 90 CAM_SI1/CSI_D0N/GPIO, 91 CAM_SI0/CSI_CKP/GPIO, 92 CAM_RSTL/CSI_CKN/GPIO/SCL1, 93 DEBUG_TXD, 94 DEBUG_RXD, 95 VSIM2, 96 WIFI_ANT, 97 SINK1, 98 SINK2, 99 HEADMIC_P, 100 HEADMIC_N, 101 KEY_IN4

## MC34063
designator U?
DC-DC
footprint SO-8
footprint DIP-8 (DIP; 8 Leads; Row Spacing 7.62 mm; Pitch 2.54 mm)
pins: 1 SWC, 2 SWE, 3 TC, 4 GND, 5 CII, 6 VCC, 7 Ipk, 8 DRC

## MCP1525
designator U?
footprint SOT23-3
pins: 1 IN, 2 OUT, 3 GND

## MCP1702
designator U?
footprint SOT23-3
pins: 1 GND, 2 OUT, 3 IN

## MCP3208
designator U?
2.7V 4-Channel/8-Channel 12-Bit A/D Converterswith SPI Serial Interface
footprint SO-16
pins: 1 CH0, 2 CH1, 3 CH2, 4 CH3, 5 CH4, 6 CH5, 7 CH6, 8 CH7, 9 DGND, 10 ~{CS}SHDN, 11 DIN, 12 DOUT, 13 CLK, 14 AGND, 15 Vref, 16 VDD

## MCP3421
designator U?
Microchip 18-Bit Analog-to-Digital Converter with I2C Interface and On-Board Reference
footprint SOT23-6
pins: 1 VIN+, 2 VSS, 3 SCL, 4 SDA, 5 VDD, 6 VINI-

## MCP3423
designator U?
18-Bit, Multi-Channel ΔΣ Analog-to-Digital Converter with  I2C? Interface and On-Board Reference
footprint MSOP-10
pins: 1 CH1+, 2 CH1-, 3 VSS, 4 CH2+, 5 CH2-, 6 VDD, 7 SDA, 8 SCL, 9 ADR0, 10 ADR1

## MCP3424
designator U?
18-Bit, Multi-Channel ΔΣ Analog-to-Digital Converter with  I2C? Interface and On-Board Reference
footprint SO-14
pins: 1 CH1+, 2 CH1-, 3 CH2+, 4 CH2-, 5 VSS, 6 VDD, 7 SDA, 8 SCL, 9 ADR0, 10 ADR1, 11 CH3+, 12 CH3- , 13 CH4+, 14 CH4- 

## MCP4728
designator U5
12-Bit, Quad Digital-to-Analog Converter with EEPROM Memory
footprint MSOP-10
pins: 1 VDD, 2 SCL, 3 SDA, 4 ~{LDAC}, 5 RDY/~{BSY}, 6 VOUTA, 7 VOUTB, 8 VOUTC, 9 VOUTD, 10 VSS

## MCP73831
designator U?
Miniature Single-Cell, Fully Integrated Li-Ion,  Li-Polymer Charge Management Controllers
footprint SOT23-5
pins: 1 CHRG, 2 GND, 3 BAT, 4 VCC, 5 PROG

## MCP73832
designator U?
Miniature Single-Cell, Fully Integrated Li-Ion,  Li-Polymer Charge Management Controllers
footprint SOT23-5
pins: 1 CHRG, 2 GND, 3 BAT, 4 VCC, 5 PROG